# Altium schematic symbol library SparkFun-Retired.SCHLIB: 411 symbols (part 3 of 6)
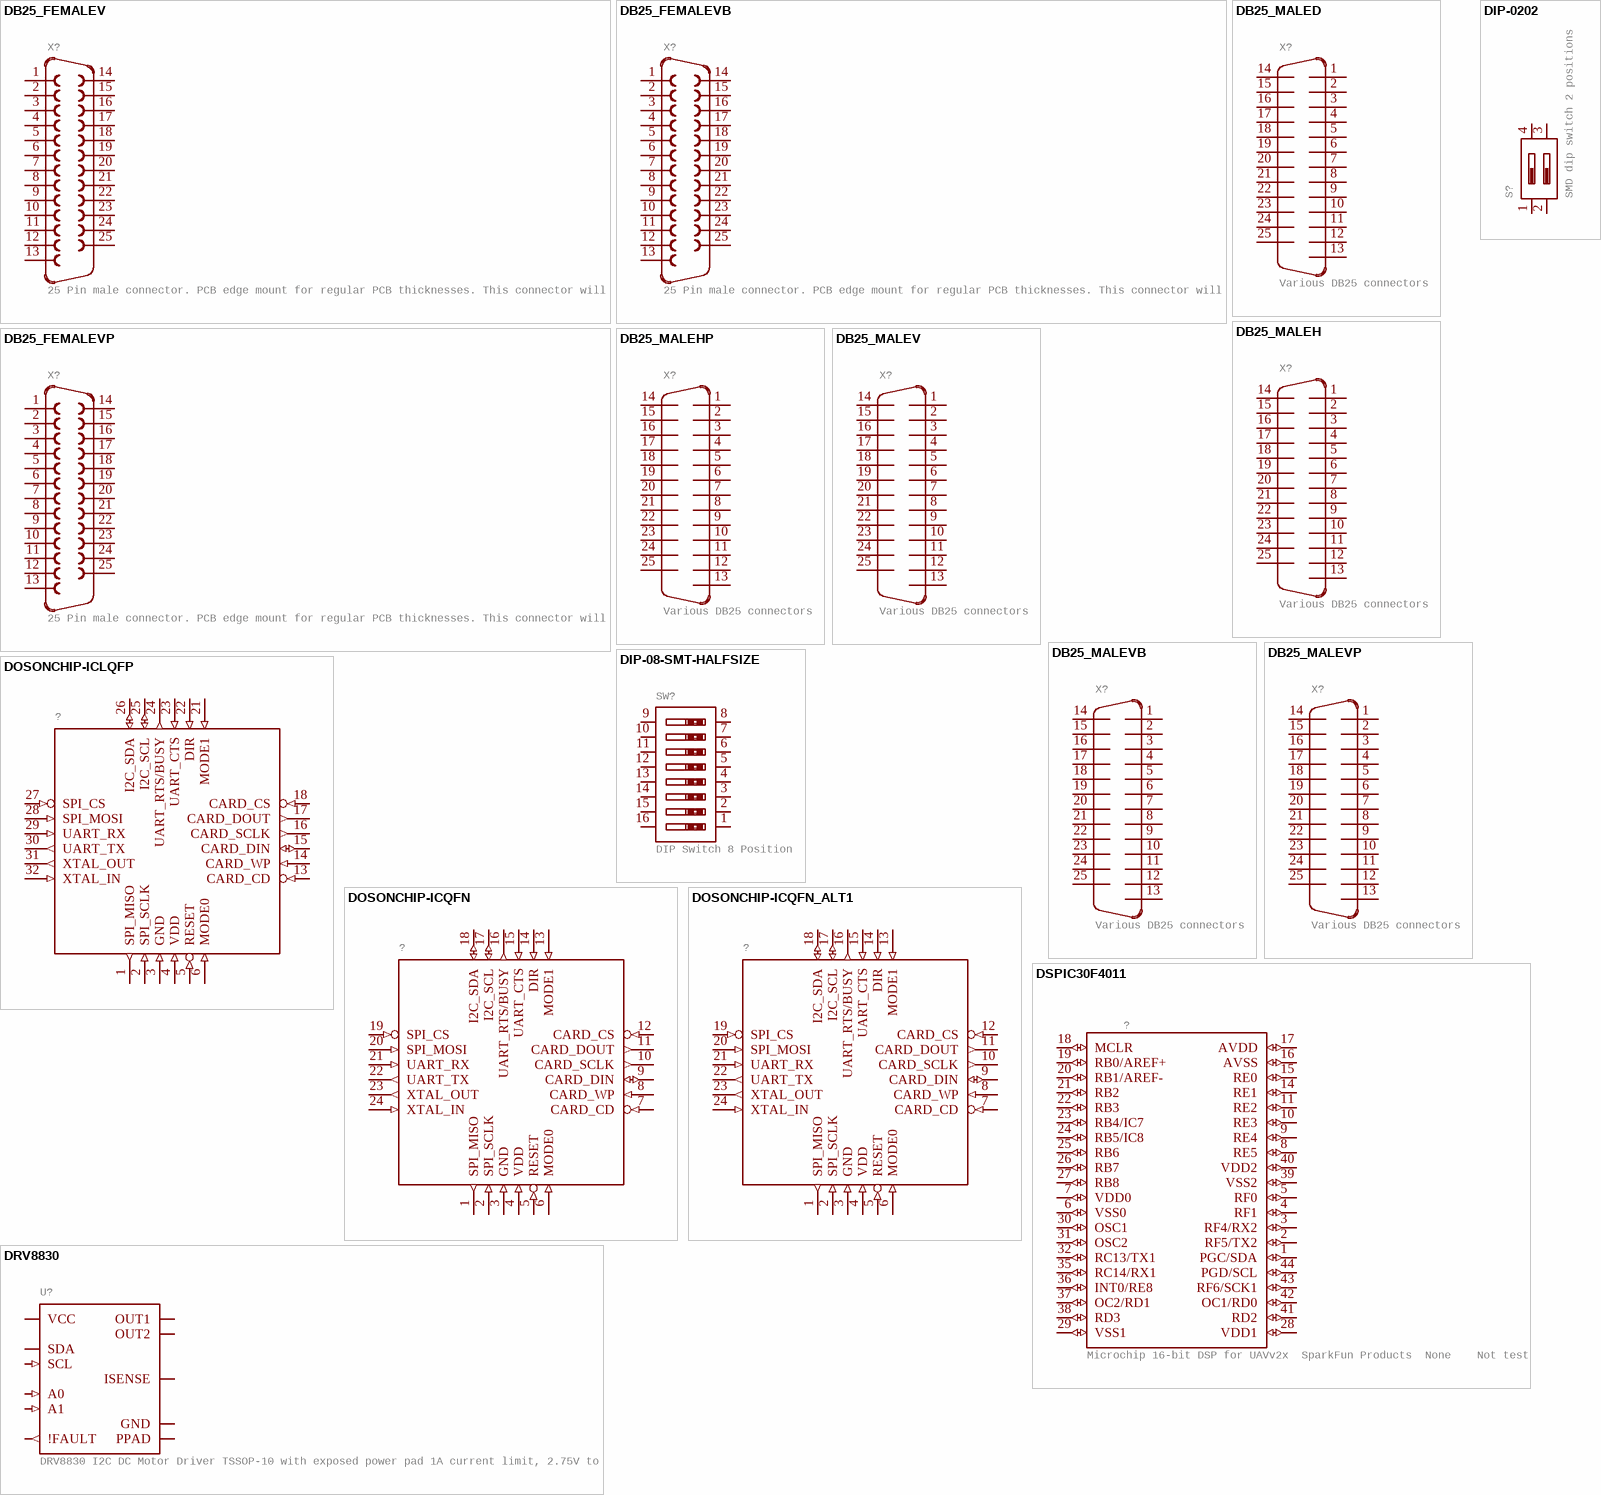
[diagram p34: symbols DB25_FEMALEV to DSPIC30F4011]

## DIP-0202
designator S?, comment SMD dip switch 2 positions
GateName_1: G$1; SymbolName_1: 2-POS-DIP; DeviceName: 02; DeviceSetName: DIP-02; LibraryName: SparkFun-Retired; Package: DIPSWITCH-02
footprint DIPSWITCH-02
pins: 1 P$1 (io), 2 P$2 (io), 3 P$3 (io), 4 P$4 (io)

## DOSONCHIP-ICLQFP
designator ?, comment DOSonCHIP ICThis is the tested schematic and footprint for the DOSonCHIP FAT16 FAT32 IC. Spark Fun Electronics SKU : COM-07956. QFN package also tested/proven.  (value not drawn)
GateName_1: G$1; SymbolName_1: DOSONCHIP-IC; DeviceName: LQFP; LibraryName: SparkFun-Retired; DeviceSetName: DOSONCHIP-IC; Package: LQFP-32
footprint LQFP-32
pins: 1 SPI_MISO (out), 2 SPI_SCLK (in), 3 GND (in), 4 VDD (in), 5 RESET (in), 6 MODE0 (in), 13 CARD_CD (in), 14 CARD_WP (in), 15 CARD_DIN (io), 16 CARD_SCLK (out), 17 CARD_DOUT (out), 18 CARD_CS (in), 21 MODE1 (in), 22 DIR (in), 23 UART_CTS (in), 24 UART_RTS/BUSY (out), 25 I2C_SCL (io), 26 I2C_SDA (io), 27 SPI_CS (in), 28 SPI_MOSI (in), 29 UART_RX (in), 30 UART_TX (out), 31 XTAL_OUT (out), 32 XTAL_IN (in)

## DOSONCHIP-ICQFN
designator ?, comment DOSonCHIP ICThis is the tested schematic and footprint for the DOSonCHIP FAT16 FAT32 IC. Spark Fun Electronics SKU : COM-07956. QFN package also tested/proven.  (value not drawn)
GateName_1: G$1; SymbolName_1: DOSONCHIP-IC; DeviceName: QFN; LibraryName: SparkFun-Retired; DeviceSetName: DOSONCHIP-IC; Package: QFN-24
footprint QFN-24
pins: 1 SPI_MISO (out), 2 SPI_SCLK (in), 3 GND (in), 4 VDD (in), 5 RESET (in), 6 MODE0 (in), 7 CARD_CD (in), 8 CARD_WP (in), 9 CARD_DIN (io), 10 CARD_SCLK (out), 11 CARD_DOUT (out), 12 CARD_CS (in), 13 MODE1 (in), 14 DIR (in), 15 UART_CTS (in), 16 UART_RTS/BUSY (out), 17 I2C_SCL (io), 18 I2C_SDA (io), 19 SPI_CS (in), 20 SPI_MOSI (in), 21 UART_RX (in), 22 UART_TX (out), 23 XTAL_OUT (out), 24 XTAL_IN (in)

## DOSONCHIP-ICQFN_ALT1
designator ?, comment DOSonCHIP ICThis is the tested schematic and footprint for the DOSonCHIP FAT16 FAT32 IC. Spark Fun Electronics SKU : COM-07956. QFN package also tested/proven.  (value not drawn)
GateName_1: G$1; SymbolName_1: DOSONCHIP-IC; DeviceName: QFN_ALT1; LibraryName: SparkFun-Retired; DeviceSetName: DOSONCHIP-IC; Package: QFN-24_ALT1.PAC
footprint QFN-24_ALT1.PAC
pins: 1 SPI_MISO (out), 2 SPI_SCLK (in), 3 GND (in), 4 VDD (in), 5 RESET (in), 6 MODE0 (in), 7 CARD_CD (in), 8 CARD_WP (in), 9 CARD_DIN (io), 10 CARD_SCLK (out), 11 CARD_DOUT (out), 12 CARD_CS (in), 13 MODE1 (in), 14 DIR (in), 15 UART_CTS (in), 16 UART_RTS/BUSY (out), 17 I2C_SCL (io), 18 I2C_SDA (io), 19 SPI_CS (in), 20 SPI_MOSI (in), 21 UART_RX (in), 22 UART_TX (out), 23 XTAL_OUT (out), 24 XTAL_IN (in)

## DRV8830
designator U?, comment DRV8830 I2C DC Motor Driver TSSOP-10 with exposed power pad 1A current limit, 2.75V to 6.8V
GateName_1: G$1; PROD_ID: IC-11646; SymbolName_1: DRV8830; LibraryName: SparkFun-Retired; DeviceSetName: DRV8830; Package: MSOP-10-GNDPAD
footprint MSOP-10-GNDPAD
pins: 1 OUT2 (power), 2 ISENSE (io), 3 OUT1 (power), 4 VCC (power), 5 GND (power), 6 !FAULT (out), 7 A0 (in), 8 A1 (in), 9 SDA (io), 10 SCL (in), GND PPAD (power)

## DSPIC30F4011
designator ?, comment Microchip 16-bit DSP for UAVv2x  SparkFun Products  None    Not tested
GateName_1: G$1; SymbolName_1: DSPIC30F4011; LibraryName: SparkFun-Retired; DeviceSetName: DSPIC30F4011; Package: TQFP44_MCU
footprint TQFP44_MCU
pins: 1 PGC/SDA (io), 2 RF5/TX2 (io), 3 RF4/RX2 (io), 4 RF1 (io), 5 RF0 (io), 6 VSS0 (io), 7 VDD0 (io), 8 RE5 (io), 9 RE4 (io), 10 RE3 (io), 11 RE2 (io), 14 RE1 (io), 15 RE0 (io), 16 AVSS (io), 17 AVDD (io), 18 MCLR (io), 19 RB0/AREF+ (io), 20 RB1/AREF- (io), 21 RB2 (io), 22 RB3 (io), 23 RB4/IC7 (io), 24 RB5/IC8 (io), 25 RB6 (io), 26 RB7 (io), 27 RB8 (io), 28 VDD1 (io), 29 VSS1 (io), 30 OSC1 (io), 31 OSC2 (io), 32 RC13/TX1 (io), 35 RC14/RX1 (io), 36 INT0/RE8 (io), 37 OC2/RD1 (io), 38 RD3 (io), 39 VSS2 (io), 40 VDD2 (io), 41 RD2 (io), 42 OC1/RD0 (io), 43 RF6/SCK1 (io), 44 PGD/SCL (io)

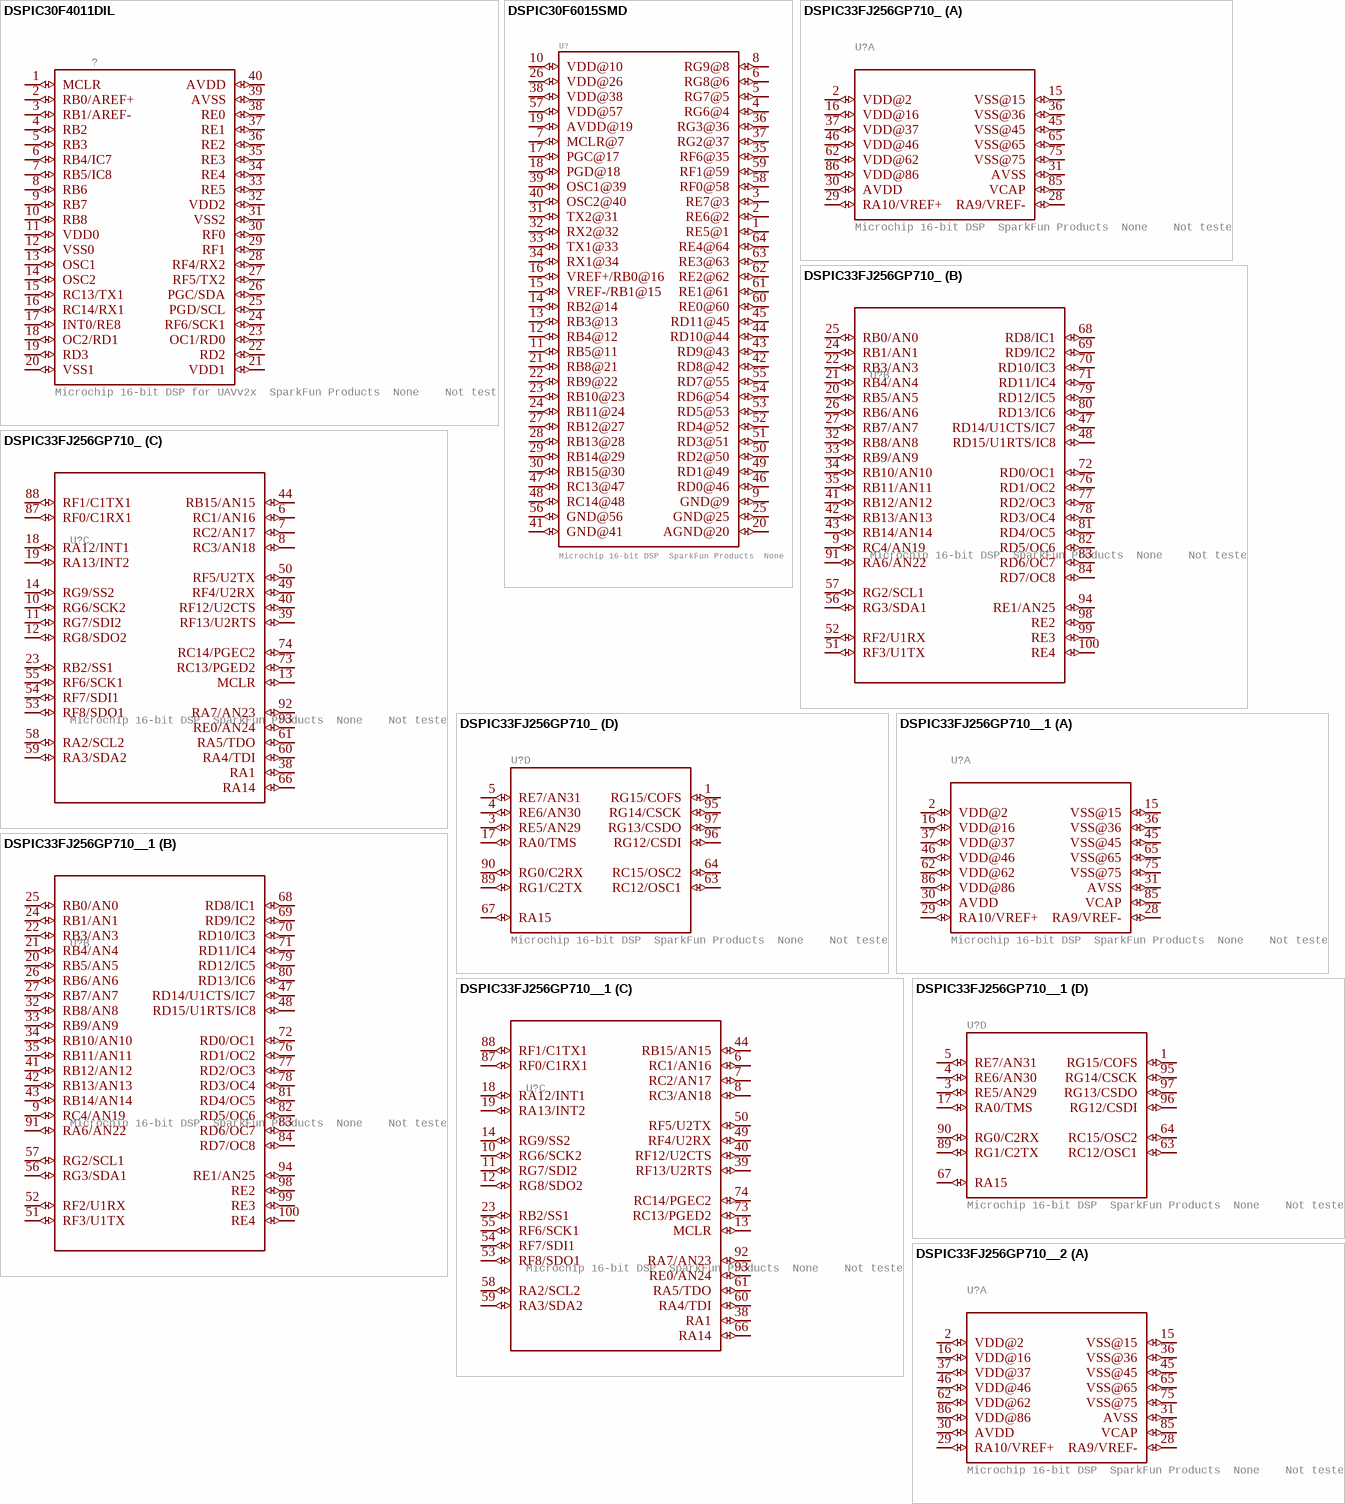
[diagram p10: symbols DSPIC30F4011DIL to DSPIC33FJ256GP710__2]

## DSPIC30F4011DIL
designator ?, comment Microchip 16-bit DSP for UAVv2x  SparkFun Products  None    Not tested
GateName_1: G$1; SymbolName_1: DSPIC30F4011; DeviceName: DIL; LibraryName: SparkFun-Retired; DeviceSetName: DSPIC30F4011; Package: DIP40_MCU
footprint DIP40_MCU
pins: 1 MCLR (io), 2 RB0/AREF+ (io), 3 RB1/AREF- (io), 4 RB2 (io), 5 RB3 (io), 6 RB4/IC7 (io), 7 RB5/IC8 (io), 8 RB6 (io), 9 RB7 (io), 10 RB8 (io), 11 VDD0 (io), 12 VSS0 (io), 13 OSC1 (io), 14 OSC2 (io), 15 RC13/TX1 (io), 16 RC14/RX1 (io), 17 INT0/RE8 (io), 18 OC2/RD1 (io), 19 RD3 (io), 20 VSS1 (io), 21 VDD1 (io), 22 RD2 (io), 23 OC1/RD0 (io), 24 RF6/SCK1 (io), 25 PGD/SCL (io), 26 PGC/SDA (io), 27 RF5/TX2 (io), 28 RF4/RX2 (io), 29 RF1 (io), 30 RF0 (io), 31 VSS2 (io), 32 VDD2 (io), 33 RE5 (io), 34 RE4 (io), 35 RE3 (io), 36 RE2 (io), 37 RE1 (io), 38 RE0 (io), 39 AVSS (io), 40 AVDD (io)

## DSPIC30F6015SMD
designator U?, comment Microchip 16-bit DSP  SparkFun Products  None
GateName_1: G$1; SymbolName_1: DSPIC30F6015; DeviceName: SMD; LibraryName: SparkFun-Retired; DeviceSetName: DSPIC30F6015; Package: TQFP64_MCU
footprint TQFP64_MCU
pins: 1 RE5@1 (io), 2 RE6@2 (io), 3 RE7@3 (io), 4 RG6@4 (io), 5 RG7@5 (io), 6 RG8@6 (io), 7 MCLR@7 (io), 8 RG9@8 (io), 9 GND@9 (io), 10 VDD@10 (io), 11 RB5@11 (io), 12 RB4@12 (io), 13 RB3@13 (io), 14 RB2@14 (io), 15 VREF-/RB1@15 (io), 16 VREF+/RB0@16 (io), 17 PGC@17 (io), 18 PGD@18 (io), 19 AVDD@19 (io), 20 AGND@20 (io), 21 RB8@21 (io), 22 RB9@22 (io), 23 RB10@23 (io), 24 RB11@24 (io), 25 GND@25 (io), 26 VDD@26 (io), 27 RB12@27 (io), 28 RB13@28 (io), 29 RB14@29 (io), 30 RB15@30 (io), 31 TX2@31 (io), 32 RX2@32 (io), 33 TX1@33 (io), 34 RX1@34 (io), 35 RF6@35 (io), 36 RG3@36 (io), 37 RG2@37 (io), 38 VDD@38 (io), 39 OSC1@39 (io), 40 OSC2@40 (io), 41 GND@41 (io), 42 RD8@42 (io), 43 RD9@43 (io), 44 RD10@44 (io), 45 RD11@45 (io), 46 RD0@46 (io), 47 RC13@47 (io), 48 RC14@48 (io), 49 RD1@49 (io), 50 RD2@50 (io), 51 RD3@51 (io), 52 RD4@52 (io), 53 RD5@53 (io), 54 RD6@54 (io), 55 RD7@55 (io), 56 GND@56 (io), 57 VDD@57 (io), 58 RF0@58 (io), 59 RF1@59 (io), 60 RE0@60 (io), 61 RE1@61 (io), 62 RE2@62 (io), 63 RE3@63 (io), 64 RE4@64 (io)

## DSPIC33FJ256GP710_
designator U?, comment Microchip 16-bit DSP  SparkFun Products  None    Not tested
GateName_1: G1; SymbolName_1: DSPIC33FJ256GP710_POWER; GateName_2: G2; SymbolName_2: DSPIC33FJ256GP710_CONTROL; GateName_3: G3; SymbolName_3: DSPIC33FJ256GP710_EXTERNAL; GateName_4: G4; SymbolName_4: DSPIC33FJ256GP710_EXTRA; DeviceName: _; DeviceSetName: DSPIC33FJ256GP710; LibraryName: SparkFun-Retired; Package: TQFP-100-12X12MM_MCU
footprint TQFP-100-12X12MM_MCU
part A pins: 2 VDD@2 (io), 15 VSS@15 (io), 16 VDD@16 (io), 28 RA9/VREF- (io), 29 RA10/VREF+ (io), 30 AVDD (io), 31 AVSS (io), 36 VSS@36 (io), 37 VDD@37 (io), 45 VSS@45 (io), 46 VDD@46 (io), 62 VDD@62 (io), 65 VSS@65 (io), 75 VSS@75 (io), 85 VCAP (io), 86 VDD@86 (io)
part B pins: 9 RC4/AN19 (io), 20 RB5/AN5 (io), 21 RB4/AN4 (io), 22 RB3/AN3 (io), 24 RB1/AN1 (io), 25 RB0/AN0 (io), 26 RB6/AN6 (io), 27 RB7/AN7 (io), 32 RB8/AN8 (io), 33 RB9/AN9 (io), 34 RB10/AN10 (io), 35 RB11/AN11 (io), 41 RB12/AN12 (io), 42 RB13/AN13 (io), 43 RB14/AN14 (io), 47 RD14/U1CTS/IC7 (io), 48 RD15/U1RTS/IC8 (io), 51 RF3/U1TX (io), 52 RF2/U1RX (io), 56 RG3/SDA1 (io), 57 RG2/SCL1 (io), 68 RD8/IC1 (io), 69 RD9/IC2 (io), 70 RD10/IC3 (io), 71 RD11/IC4 (io), 72 RD0/OC1 (io), 76 RD1/OC2 (io), 77 RD2/OC3 (io), 78 RD3/OC4 (io), 79 RD12/IC5 (io), 80 RD13/IC6 (io), 81 RD4/OC5 (io), 82 RD5/OC6 (io), 83 RD6/OC7 (io), 84 RD7/OC8 (io), 91 RA6/AN22 (io), 94 RE1/AN25 (io), 98 RE2 (io), 99 RE3 (io), 100 RE4 (io)
part C pins: 6 RC1/AN16 (io), 7 RC2/AN17 (io), 8 RC3/AN18 (io), 10 RG6/SCK2 (io), 11 RG7/SDI2 (io), 12 RG8/SDO2 (io), 13 MCLR (io), 14 RG9/SS2 (io), 18 RA12/INT1 (io), 19 RA13/INT2 (io), 23 RB2/SS1 (io), 38 RA1 (io), 39 RF13/U2RTS (io), 40 RF12/U2CTS (io), 44 RB15/AN15 (io), 49 RF4/U2RX (io), 50 RF5/U2TX (io), 53 RF8/SDO1 (io), 54 RF7/SDI1 (io), 55 RF6/SCK1 (io), 58 RA2/SCL2 (io), 59 RA3/SDA2 (io), 60 RA4/TDI (io), 61 RA5/TDO (io), 66 RA14 (io), 73 RC13/PGED2 (io), 74 RC14/PGEC2 (io), 87 RF0/C1RX1 (io), 88 RF1/C1TX1 (io), 92 RA7/AN23 (io), 93 RE0/AN24 (io)
part D pins: 1 RG15/COFS (io), 3 RE5/AN29 (io), 4 RE6/AN30 (io), 5 RE7/AN31 (io), 17 RA0/TMS (io), 63 RC12/OSC1 (io), 64 RC15/OSC2 (io), 67 RA15 (io), 89 RG1/C2TX (io), 90 RG0/C2RX (io), 95 RG14/CSCK (io), 96 RG12/CSDI (io), 97 RG13/CSDO (io)

## DSPIC33FJ256GP710__1
designator U?, comment Microchip 16-bit DSP  SparkFun Products  None    Not tested
GateName_1: G1; SymbolName_1: DSPIC33FJ256GP710_POWER; GateName_2: G2; SymbolName_2: DSPIC33FJ256GP710_CONTROL; GateName_3: G3; SymbolName_3: DSPIC33FJ256GP710_EXTERNAL; GateName_4: G4; SymbolName_4: DSPIC33FJ256GP710_EXTRA; DeviceName: _; DeviceSetName: DSPIC33FJ256GP710; LibraryName: SparkFun-Retired; Package: TQFP-100-12X12MM_MCU
footprint TQFP-100-12X12MM_MCU
part A pins: 2 VDD@2 (io), 15 VSS@15 (io), 16 VDD@16 (io), 28 RA9/VREF- (io), 29 RA10/VREF+ (io), 30 AVDD (io), 31 AVSS (io), 36 VSS@36 (io), 37 VDD@37 (io), 45 VSS@45 (io), 46 VDD@46 (io), 62 VDD@62 (io), 65 VSS@65 (io), 75 VSS@75 (io), 85 VCAP (io), 86 VDD@86 (io)
part B pins: 9 RC4/AN19 (io), 20 RB5/AN5 (io), 21 RB4/AN4 (io), 22 RB3/AN3 (io), 24 RB1/AN1 (io), 25 RB0/AN0 (io), 26 RB6/AN6 (io), 27 RB7/AN7 (io), 32 RB8/AN8 (io), 33 RB9/AN9 (io), 34 RB10/AN10 (io), 35 RB11/AN11 (io), 41 RB12/AN12 (io), 42 RB13/AN13 (io), 43 RB14/AN14 (io), 47 RD14/U1CTS/IC7 (io), 48 RD15/U1RTS/IC8 (io), 51 RF3/U1TX (io), 52 RF2/U1RX (io), 56 RG3/SDA1 (io), 57 RG2/SCL1 (io), 68 RD8/IC1 (io), 69 RD9/IC2 (io), 70 RD10/IC3 (io), 71 RD11/IC4 (io), 72 RD0/OC1 (io), 76 RD1/OC2 (io), 77 RD2/OC3 (io), 78 RD3/OC4 (io), 79 RD12/IC5 (io), 80 RD13/IC6 (io), 81 RD4/OC5 (io), 82 RD5/OC6 (io), 83 RD6/OC7 (io), 84 RD7/OC8 (io), 91 RA6/AN22 (io), 94 RE1/AN25 (io), 98 RE2 (io), 99 RE3 (io), 100 RE4 (io)
part C pins: 6 RC1/AN16 (io), 7 RC2/AN17 (io), 8 RC3/AN18 (io), 10 RG6/SCK2 (io), 11 RG7/SDI2 (io), 12 RG8/SDO2 (io), 13 MCLR (io), 14 RG9/SS2 (io), 18 RA12/INT1 (io), 19 RA13/INT2 (io), 23 RB2/SS1 (io), 38 RA1 (io), 39 RF13/U2RTS (io), 40 RF12/U2CTS (io), 44 RB15/AN15 (io), 49 RF4/U2RX (io), 50 RF5/U2TX (io), 53 RF8/SDO1 (io), 54 RF7/SDI1 (io), 55 RF6/SCK1 (io), 58 RA2/SCL2 (io), 59 RA3/SDA2 (io), 60 RA4/TDI (io), 61 RA5/TDO (io), 66 RA14 (io), 73 RC13/PGED2 (io), 74 RC14/PGEC2 (io), 87 RF0/C1RX1 (io), 88 RF1/C1TX1 (io), 92 RA7/AN23 (io), 93 RE0/AN24 (io)
part D pins: 1 RG15/COFS (io), 3 RE5/AN29 (io), 4 RE6/AN30 (io), 5 RE7/AN31 (io), 17 RA0/TMS (io), 63 RC12/OSC1 (io), 64 RC15/OSC2 (io), 67 RA15 (io), 89 RG1/C2TX (io), 90 RG0/C2RX (io), 95 RG14/CSCK (io), 96 RG12/CSDI (io), 97 RG13/CSDO (io)

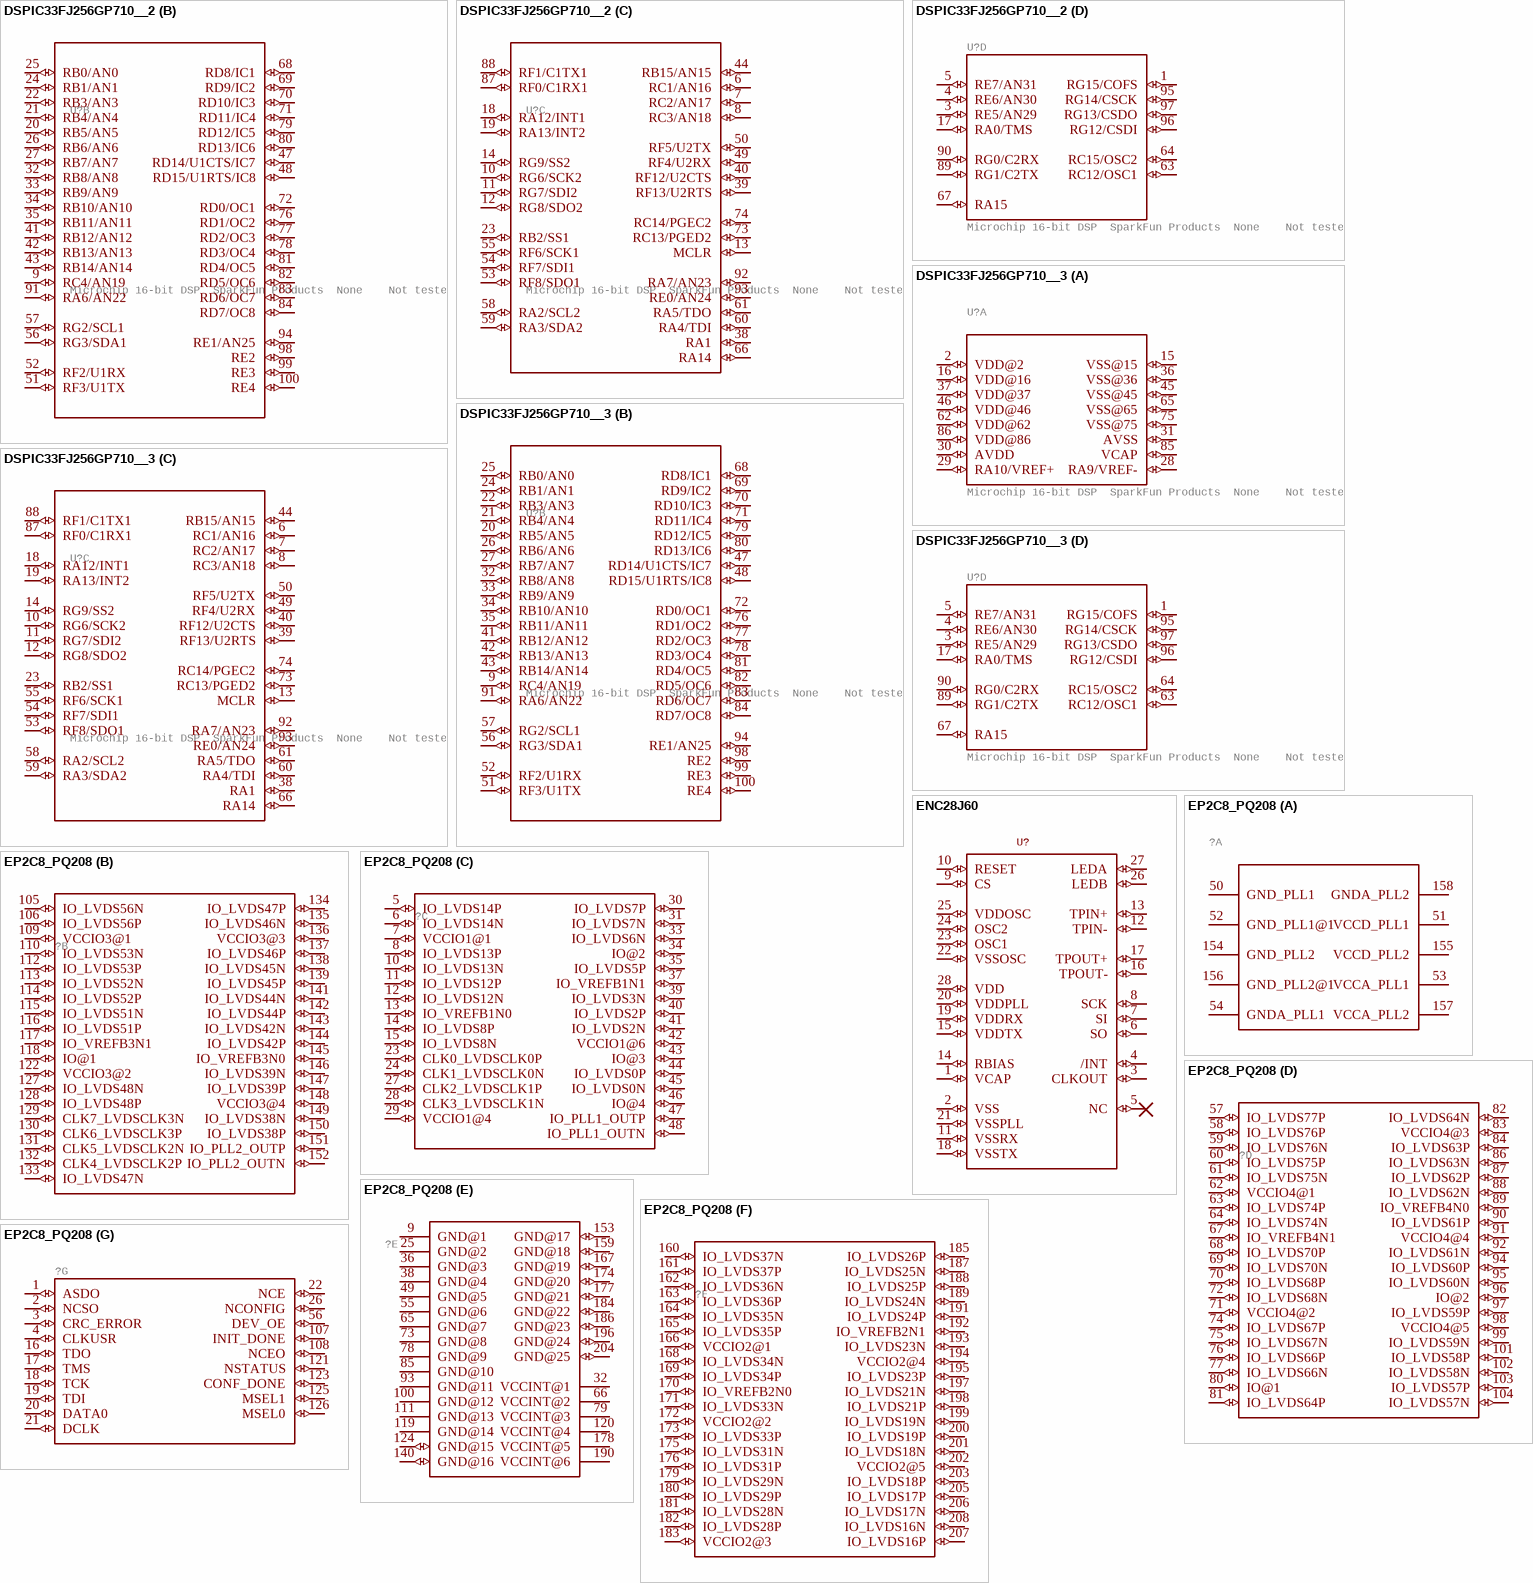
[diagram p11: symbols DSPIC33FJ256GP710__2 to EP2C8_PQ208]

## DSPIC33FJ256GP710__2
designator U?, comment Microchip 16-bit DSP  SparkFun Products  None    Not tested
GateName_1: G1; SymbolName_1: DSPIC33FJ256GP710_POWER; GateName_2: G2; SymbolName_2: DSPIC33FJ256GP710_CONTROL; GateName_3: G3; SymbolName_3: DSPIC33FJ256GP710_EXTERNAL; GateName_4: G4; SymbolName_4: DSPIC33FJ256GP710_EXTRA; DeviceName: _; DeviceSetName: DSPIC33FJ256GP710; LibraryName: SparkFun-Retired; Package: TQFP-100-12X12MM_MCU
footprint TQFP-100-12X12MM_MCU
part A pins: 2 VDD@2 (io), 15 VSS@15 (io), 16 VDD@16 (io), 28 RA9/VREF- (io), 29 RA10/VREF+ (io), 30 AVDD (io), 31 AVSS (io), 36 VSS@36 (io), 37 VDD@37 (io), 45 VSS@45 (io), 46 VDD@46 (io), 62 VDD@62 (io), 65 VSS@65 (io), 75 VSS@75 (io), 85 VCAP (io), 86 VDD@86 (io)
part B pins: 9 RC4/AN19 (io), 20 RB5/AN5 (io), 21 RB4/AN4 (io), 22 RB3/AN3 (io), 24 RB1/AN1 (io), 25 RB0/AN0 (io), 26 RB6/AN6 (io), 27 RB7/AN7 (io), 32 RB8/AN8 (io), 33 RB9/AN9 (io), 34 RB10/AN10 (io), 35 RB11/AN11 (io), 41 RB12/AN12 (io), 42 RB13/AN13 (io), 43 RB14/AN14 (io), 47 RD14/U1CTS/IC7 (io), 48 RD15/U1RTS/IC8 (io), 51 RF3/U1TX (io), 52 RF2/U1RX (io), 56 RG3/SDA1 (io), 57 RG2/SCL1 (io), 68 RD8/IC1 (io), 69 RD9/IC2 (io), 70 RD10/IC3 (io), 71 RD11/IC4 (io), 72 RD0/OC1 (io), 76 RD1/OC2 (io), 77 RD2/OC3 (io), 78 RD3/OC4 (io), 79 RD12/IC5 (io), 80 RD13/IC6 (io), 81 RD4/OC5 (io), 82 RD5/OC6 (io), 83 RD6/OC7 (io), 84 RD7/OC8 (io), 91 RA6/AN22 (io), 94 RE1/AN25 (io), 98 RE2 (io), 99 RE3 (io), 100 RE4 (io)
part C pins: 6 RC1/AN16 (io), 7 RC2/AN17 (io), 8 RC3/AN18 (io), 10 RG6/SCK2 (io), 11 RG7/SDI2 (io), 12 RG8/SDO2 (io), 13 MCLR (io), 14 RG9/SS2 (io), 18 RA12/INT1 (io), 19 RA13/INT2 (io), 23 RB2/SS1 (io), 38 RA1 (io), 39 RF13/U2RTS (io), 40 RF12/U2CTS (io), 44 RB15/AN15 (io), 49 RF4/U2RX (io), 50 RF5/U2TX (io), 53 RF8/SDO1 (io), 54 RF7/SDI1 (io), 55 RF6/SCK1 (io), 58 RA2/SCL2 (io), 59 RA3/SDA2 (io), 60 RA4/TDI (io), 61 RA5/TDO (io), 66 RA14 (io), 73 RC13/PGED2 (io), 74 RC14/PGEC2 (io), 87 RF0/C1RX1 (io), 88 RF1/C1TX1 (io), 92 RA7/AN23 (io), 93 RE0/AN24 (io)
part D pins: 1 RG15/COFS (io), 3 RE5/AN29 (io), 4 RE6/AN30 (io), 5 RE7/AN31 (io), 17 RA0/TMS (io), 63 RC12/OSC1 (io), 64 RC15/OSC2 (io), 67 RA15 (io), 89 RG1/C2TX (io), 90 RG0/C2RX (io), 95 RG14/CSCK (io), 96 RG12/CSDI (io), 97 RG13/CSDO (io)

## DSPIC33FJ256GP710__3
designator U?, comment Microchip 16-bit DSP  SparkFun Products  None    Not tested
GateName_1: G1; SymbolName_1: DSPIC33FJ256GP710_POWER; GateName_2: G2; SymbolName_2: DSPIC33FJ256GP710_CONTROL; GateName_3: G3; SymbolName_3: DSPIC33FJ256GP710_EXTERNAL; GateName_4: G4; SymbolName_4: DSPIC33FJ256GP710_EXTRA; DeviceName: _; DeviceSetName: DSPIC33FJ256GP710; LibraryName: SparkFun-Retired; Package: TQFP-100-12X12MM_MCU
footprint TQFP-100-12X12MM_MCU
part A pins: 2 VDD@2 (io), 15 VSS@15 (io), 16 VDD@16 (io), 28 RA9/VREF- (io), 29 RA10/VREF+ (io), 30 AVDD (io), 31 AVSS (io), 36 VSS@36 (io), 37 VDD@37 (io), 45 VSS@45 (io), 46 VDD@46 (io), 62 VDD@62 (io), 65 VSS@65 (io), 75 VSS@75 (io), 85 VCAP (io), 86 VDD@86 (io)
part B pins: 9 RC4/AN19 (io), 20 RB5/AN5 (io), 21 RB4/AN4 (io), 22 RB3/AN3 (io), 24 RB1/AN1 (io), 25 RB0/AN0 (io), 26 RB6/AN6 (io), 27 RB7/AN7 (io), 32 RB8/AN8 (io), 33 RB9/AN9 (io), 34 RB10/AN10 (io), 35 RB11/AN11 (io), 41 RB12/AN12 (io), 42 RB13/AN13 (io), 43 RB14/AN14 (io), 47 RD14/U1CTS/IC7 (io), 48 RD15/U1RTS/IC8 (io), 51 RF3/U1TX (io), 52 RF2/U1RX (io), 56 RG3/SDA1 (io), 57 RG2/SCL1 (io), 68 RD8/IC1 (io), 69 RD9/IC2 (io), 70 RD10/IC3 (io), 71 RD11/IC4 (io), 72 RD0/OC1 (io), 76 RD1/OC2 (io), 77 RD2/OC3 (io), 78 RD3/OC4 (io), 79 RD12/IC5 (io), 80 RD13/IC6 (io), 81 RD4/OC5 (io), 82 RD5/OC6 (io), 83 RD6/OC7 (io), 84 RD7/OC8 (io), 91 RA6/AN22 (io), 94 RE1/AN25 (io), 98 RE2 (io), 99 RE3 (io), 100 RE4 (io)
part C pins: 6 RC1/AN16 (io), 7 RC2/AN17 (io), 8 RC3/AN18 (io), 10 RG6/SCK2 (io), 11 RG7/SDI2 (io), 12 RG8/SDO2 (io), 13 MCLR (io), 14 RG9/SS2 (io), 18 RA12/INT1 (io), 19 RA13/INT2 (io), 23 RB2/SS1 (io), 38 RA1 (io), 39 RF13/U2RTS (io), 40 RF12/U2CTS (io), 44 RB15/AN15 (io), 49 RF4/U2RX (io), 50 RF5/U2TX (io), 53 RF8/SDO1 (io), 54 RF7/SDI1 (io), 55 RF6/SCK1 (io), 58 RA2/SCL2 (io), 59 RA3/SDA2 (io), 60 RA4/TDI (io), 61 RA5/TDO (io), 66 RA14 (io), 73 RC13/PGED2 (io), 74 RC14/PGEC2 (io), 87 RF0/C1RX1 (io), 88 RF1/C1TX1 (io), 92 RA7/AN23 (io), 93 RE0/AN24 (io)
part D pins: 1 RG15/COFS (io), 3 RE5/AN29 (io), 4 RE6/AN30 (io), 5 RE7/AN31 (io), 17 RA0/TMS (io), 63 RC12/OSC1 (io), 64 RC15/OSC2 (io), 67 RA15 (io), 89 RG1/C2TX (io), 90 RG0/C2RX (io), 95 RG14/CSCK (io), 96 RG12/CSDI (io), 97 RG13/CSDO (io)

## ENC28J60
designator U?, comment Microchip SPI 10Base ethernet IC   Prototype by abe, 2010.  Dead?  (value not drawn)
GateName_1: G$1; SymbolName_1: ENC28J60; PROD_ID: IC-09541; LibraryName: SparkFun-Retired; DeviceSetName: ENC28J60; Package: SSOP28DB
footprint SSOP28DB
pins: 1 VCAP (io), 2 VSS (io), 3 CLKOUT (io), 4 /INT (io), 5 NC (io), 6 SO (io), 7 SI (io), 8 SCK (io), 9 CS (io), 10 RESET (io), 11 VSSRX (io), 12 TPIN- (io), 13 TPIN+ (io), 14 RBIAS (io), 15 VDDTX (io), 16 TPOUT- (io), 17 TPOUT+ (io), 18 VSSTX (io), 19 VDDRX (io), 20 VDDPLL (io), 21 VSSPLL (io), 22 VSSOSC (io), 23 OSC1 (io), 24 OSC2 (io), 25 VDDOSC (io), 26 LEDB (io), 27 LEDA (io), 28 VDD (io)

## EP2C8_PQ208
designator ?, comment Altera Cyclone2 FPGA, PQFP-208  Not in catalog  (value not drawn)
GateName_1: G$2; SymbolName_1: EP2C20_PQ208_PLL; GateName_2: G$6; SymbolName_2: EP2C20_PQ208_B3; GateName_3: G$4; SymbolName_3: EP2C20_PQ208_B1; GateName_4: G$3; SymbolName_4: EP2C20_PQ208_B4; GateName_5: G$7; SymbolName_5: EP2C20_PQ208_POWER; GateName_6: G$5; SymbolName_6: EP2C20_PQ208_B2; GateName_7: G$1; SymbolName_7: EP2C20_PQ208_CONFIG; DeviceSetName: EP2C8_PQ208; LibraryName: SparkFun-Retired; Package: PQFP208
footprint PQFP208
part A pins: 50 GND_PLL1 (power), 51 VCCD_PLL1 (power), 52 GND_PLL1@1 (power), 53 VCCA_PLL1 (power), 54 GNDA_PLL1 (power), 154 GND_PLL2 (power), 155 VCCD_PLL2 (power), 156 GND_PLL2@1 (power), 157 VCCA_PLL2 (power), 158 GNDA_PLL2 (power)
part B pins: 105 IO_LVDS56N (io), 106 IO_LVDS56P (io), 109 VCCIO3@1 (io), 110 IO_LVDS53N (io), 112 IO_LVDS53P (io), 113 IO_LVDS52N (io), 114 IO_LVDS52P (io), 115 IO_LVDS51N (io), 116 IO_LVDS51P (io), 117 IO_VREFB3N1 (io), 118 IO@1 (io), 122 VCCIO3@2 (io), 127 IO_LVDS48N (io), 128 IO_LVDS48P (io), 129 CLK7_LVDSCLK3N (io), 130 CLK6_LVDSCLK3P (io), 131 CLK5_LVDSCLK2N (io), 132 CLK4_LVDSCLK2P (io), 133 IO_LVDS47N (io), 134 IO_LVDS47P (io), 135 IO_LVDS46N (io), 136 VCCIO3@3 (io), 137 IO_LVDS46P (io), 138 IO_LVDS45N (io), 139 IO_LVDS45P (io), 141 IO_LVDS44N (io), 142 IO_LVDS44P (io), 143 IO_LVDS42N (io), 144 IO_LVDS42P (io), 145 IO_VREFB3N0 (io), 146 IO_LVDS39N (io), 147 IO_LVDS39P (io), 148 VCCIO3@4 (io), 149 IO_LVDS38N (io), 150 IO_LVDS38P (io), 151 IO_PLL2_OUTP (io), 152 IO_PLL2_OUTN (io)
part C pins: 5 IO_LVDS14P (io), 6 IO_LVDS14N (io), 7 VCCIO1@1 (io), 8 IO_LVDS13P (io), 10 IO_LVDS13N (io), 11 IO_LVDS12P (io), 12 IO_LVDS12N (io), 13 IO_VREFB1N0 (io), 14 IO_LVDS8P (io), 15 IO_LVDS8N (io), 23 CLK0_LVDSCLK0P (io), 24 CLK1_LVDSCLK0N (io), 27 CLK2_LVDSCLK1P (io), 28 CLK3_LVDSCLK1N (io), 29 VCCIO1@4 (io), 30 IO_LVDS7P (io), 31 IO_LVDS7N (io), 33 IO_LVDS6N (io), 34 IO@2 (io), 35 IO_LVDS5P (io), 37 IO_VREFB1N1 (io), 39 IO_LVDS3N (io), 40 IO_LVDS2P (io), 41 IO_LVDS2N (io), 42 VCCIO1@6 (io), 43 IO@3 (io), 44 IO_LVDS0P (io), 45 IO_LVDS0N (io), 46 IO@4 (io), 47 IO_PLL1_OUTP (io), 48 IO_PLL1_OUTN (io)
part D pins: 57 IO_LVDS77P (io), 58 IO_LVDS76P (io), 59 IO_LVDS76N (io), 60 IO_LVDS75P (io), 61 IO_LVDS75N (io), 62 VCCIO4@1 (io), 63 IO_LVDS74P (io), 64 IO_LVDS74N (io), 67 IO_VREFB4N1 (io), 68 IO_LVDS70P (io), 69 IO_LVDS70N (io), 70 IO_LVDS68P (io), 71 VCCIO4@2 (io), 72 IO_LVDS68N (io), 74 IO_LVDS67P (io), 75 IO_LVDS67N (io), 76 IO_LVDS66P (io), 77 IO_LVDS66N (io), 80 IO@1 (io), 81 IO_LVDS64P (io), 82 IO_LVDS64N (io), 83 VCCIO4@3 (io), 84 IO_LVDS63P (io), 86 IO_LVDS63N (io), 87 IO_LVDS62P (io), 88 IO_LVDS62N (io), 89 IO_VREFB4N0 (io), 90 IO_LVDS61P (io), 91 VCCIO4@4 (io), 92 IO_LVDS61N (io), 94 IO_LVDS60P (io), 95 IO_LVDS60N (io), 96 IO@2 (io), 97 IO_LVDS59P (io), 98 VCCIO4@5 (io), 99 IO_LVDS59N (io), 101 IO_LVDS58P (io), 102 IO_LVDS58N (io), 103 IO_LVDS57P (io), 104 IO_LVDS57N (io)
part E pins: 9 GND@1 (power), 25 GND@2 (power), 32 VCCINT@1 (power), 36 GND@3 (power), 38 GND@4 (power), 49 GND@5 (power), 55 GND@6 (power), 65 GND@7 (power), 66 VCCINT@2 (power), 73 GND@8 (power), 78 GND@9 (power), 79 VCCINT@3 (power), 85 GND@10 (power), 93 GND@11 (power), 100 GND@12 (power), 111 GND@13 (power), 119 GND@14 (power), 120 VCCINT@4 (power), 124 GND@15 (io), 140 GND@16 (io), 153 GND@17 (io), 159 GND@18 (io), 167 GND@19 (io), 174 GND@20 (io), 177 GND@21 (io), 178 VCCINT@5 (power), 184 GND@22 (io), 186 GND@23 (io), 190 VCCINT@6 (power), 196 GND@24 (io), 204 GND@25 (io)
part F pins: 160 IO_LVDS37N (io), 161 IO_LVDS37P (io), 162 IO_LVDS36N (io), 163 IO_LVDS36P (io), 164 IO_LVDS35N (io), 165 IO_LVDS35P (io), 166 VCCIO2@1 (io), 168 IO_LVDS34N (io), 169 IO_LVDS34P (io), 170 IO_VREFB2N0 (io), 171 IO_LVDS33N (io), 172 VCCIO2@2 (io), 173 IO_LVDS33P (io), 175 IO_LVDS31N (io), 176 IO_LVDS31P (io), 179 IO_LVDS29N (io), 180 IO_LVDS29P (io), 181 IO_LVDS28N (io), 182 IO_LVDS28P (io), 183 VCCIO2@3 (io), 185 IO_LVDS26P (io), 187 IO_LVDS25N (io), 188 IO_LVDS25P (io), 189 IO_LVDS24N (io), 191 IO_LVDS24P (io), 192 IO_VREFB2N1 (io), 193 IO_LVDS23N (io), 194 VCCIO2@4 (io), 195 IO_LVDS23P (io), 197 IO_LVDS21N (io), 198 IO_LVDS21P (io), 199 IO_LVDS19N (io), 200 IO_LVDS19P (io), 201 IO_LVDS18N (io), 202 VCCIO2@5 (io), 203 IO_LVDS18P (io), 205 IO_LVDS17P (io), 206 IO_LVDS17N (io), 207 IO_LVDS16P (io), 208 IO_LVDS16N (io)
part G pins: 1 ASDO (io), 2 NCSO (io), 3 CRC_ERROR (io), 4 CLKUSR (io), 16 TDO (io), 17 TMS (io), 18 TCK (io), 19 TDI (io), 20 DATA0 (io), 21 DCLK (io), 22 NCE (io), 26 NCONFIG (io), 56 DEV_OE (io), 107 INIT_DONE (io), 108 NCEO (io), 121 NSTATUS (io), 123 CONF_DONE (io), 125 MSEL1 (io), 126 MSEL0 (io)

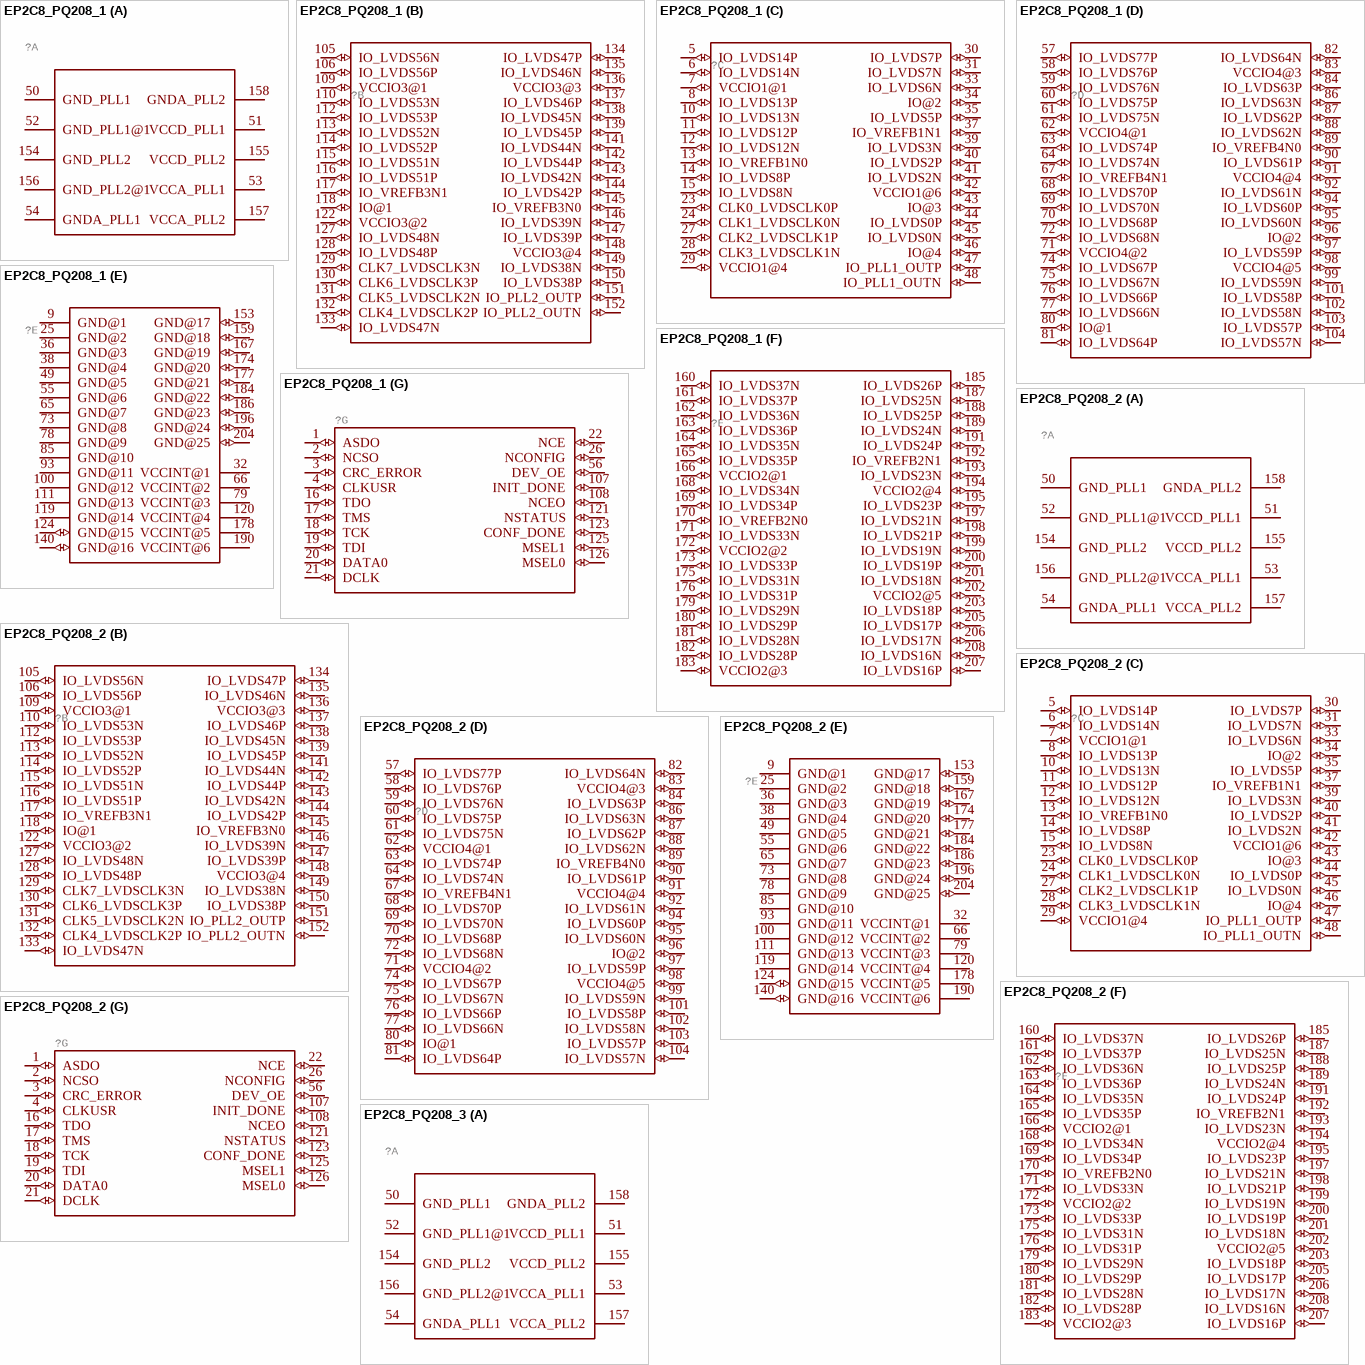
[diagram p12: symbols EP2C8_PQ208_1 to EP2C8_PQ208_3]

## EP2C8_PQ208_1
designator ?, comment Altera Cyclone2 FPGA, PQFP-208  Not in catalog  (value not drawn)
GateName_1: G$2; SymbolName_1: EP2C20_PQ208_PLL; GateName_2: G$6; SymbolName_2: EP2C20_PQ208_B3; GateName_3: G$4; SymbolName_3: EP2C20_PQ208_B1; GateName_4: G$3; SymbolName_4: EP2C20_PQ208_B4; GateName_5: G$7; SymbolName_5: EP2C20_PQ208_POWER; GateName_6: G$5; SymbolName_6: EP2C20_PQ208_B2; GateName_7: G$1; SymbolName_7: EP2C20_PQ208_CONFIG; DeviceSetName: EP2C8_PQ208; LibraryName: SparkFun-Retired; Package: PQFP208
footprint PQFP208
part A pins: 50 GND_PLL1 (power), 51 VCCD_PLL1 (power), 52 GND_PLL1@1 (power), 53 VCCA_PLL1 (power), 54 GNDA_PLL1 (power), 154 GND_PLL2 (power), 155 VCCD_PLL2 (power), 156 GND_PLL2@1 (power), 157 VCCA_PLL2 (power), 158 GNDA_PLL2 (power)
part B pins: 105 IO_LVDS56N (io), 106 IO_LVDS56P (io), 109 VCCIO3@1 (io), 110 IO_LVDS53N (io), 112 IO_LVDS53P (io), 113 IO_LVDS52N (io), 114 IO_LVDS52P (io), 115 IO_LVDS51N (io), 116 IO_LVDS51P (io), 117 IO_VREFB3N1 (io), 118 IO@1 (io), 122 VCCIO3@2 (io), 127 IO_LVDS48N (io), 128 IO_LVDS48P (io), 129 CLK7_LVDSCLK3N (io), 130 CLK6_LVDSCLK3P (io), 131 CLK5_LVDSCLK2N (io), 132 CLK4_LVDSCLK2P (io), 133 IO_LVDS47N (io), 134 IO_LVDS47P (io), 135 IO_LVDS46N (io), 136 VCCIO3@3 (io), 137 IO_LVDS46P (io), 138 IO_LVDS45N (io), 139 IO_LVDS45P (io), 141 IO_LVDS44N (io), 142 IO_LVDS44P (io), 143 IO_LVDS42N (io), 144 IO_LVDS42P (io), 145 IO_VREFB3N0 (io), 146 IO_LVDS39N (io), 147 IO_LVDS39P (io), 148 VCCIO3@4 (io), 149 IO_LVDS38N (io), 150 IO_LVDS38P (io), 151 IO_PLL2_OUTP (io), 152 IO_PLL2_OUTN (io)
part C pins: 5 IO_LVDS14P (io), 6 IO_LVDS14N (io), 7 VCCIO1@1 (io), 8 IO_LVDS13P (io), 10 IO_LVDS13N (io), 11 IO_LVDS12P (io), 12 IO_LVDS12N (io), 13 IO_VREFB1N0 (io), 14 IO_LVDS8P (io), 15 IO_LVDS8N (io), 23 CLK0_LVDSCLK0P (io), 24 CLK1_LVDSCLK0N (io), 27 CLK2_LVDSCLK1P (io), 28 CLK3_LVDSCLK1N (io), 29 VCCIO1@4 (io), 30 IO_LVDS7P (io), 31 IO_LVDS7N (io), 33 IO_LVDS6N (io), 34 IO@2 (io), 35 IO_LVDS5P (io), 37 IO_VREFB1N1 (io), 39 IO_LVDS3N (io), 40 IO_LVDS2P (io), 41 IO_LVDS2N (io), 42 VCCIO1@6 (io), 43 IO@3 (io), 44 IO_LVDS0P (io), 45 IO_LVDS0N (io), 46 IO@4 (io), 47 IO_PLL1_OUTP (io), 48 IO_PLL1_OUTN (io)
part D pins: 57 IO_LVDS77P (io), 58 IO_LVDS76P (io), 59 IO_LVDS76N (io), 60 IO_LVDS75P (io), 61 IO_LVDS75N (io), 62 VCCIO4@1 (io), 63 IO_LVDS74P (io), 64 IO_LVDS74N (io), 67 IO_VREFB4N1 (io), 68 IO_LVDS70P (io), 69 IO_LVDS70N (io), 70 IO_LVDS68P (io), 71 VCCIO4@2 (io), 72 IO_LVDS68N (io), 74 IO_LVDS67P (io), 75 IO_LVDS67N (io), 76 IO_LVDS66P (io), 77 IO_LVDS66N (io), 80 IO@1 (io), 81 IO_LVDS64P (io), 82 IO_LVDS64N (io), 83 VCCIO4@3 (io), 84 IO_LVDS63P (io), 86 IO_LVDS63N (io), 87 IO_LVDS62P (io), 88 IO_LVDS62N (io), 89 IO_VREFB4N0 (io), 90 IO_LVDS61P (io), 91 VCCIO4@4 (io), 92 IO_LVDS61N (io), 94 IO_LVDS60P (io), 95 IO_LVDS60N (io), 96 IO@2 (io), 97 IO_LVDS59P (io), 98 VCCIO4@5 (io), 99 IO_LVDS59N (io), 101 IO_LVDS58P (io), 102 IO_LVDS58N (io), 103 IO_LVDS57P (io), 104 IO_LVDS57N (io)
part E pins: 9 GND@1 (power), 25 GND@2 (power), 32 VCCINT@1 (power), 36 GND@3 (power), 38 GND@4 (power), 49 GND@5 (power), 55 GND@6 (power), 65 GND@7 (power), 66 VCCINT@2 (power), 73 GND@8 (power), 78 GND@9 (power), 79 VCCINT@3 (power), 85 GND@10 (power), 93 GND@11 (power), 100 GND@12 (power), 111 GND@13 (power), 119 GND@14 (power), 120 VCCINT@4 (power), 124 GND@15 (io), 140 GND@16 (io), 153 GND@17 (io), 159 GND@18 (io), 167 GND@19 (io), 174 GND@20 (io), 177 GND@21 (io), 178 VCCINT@5 (power), 184 GND@22 (io), 186 GND@23 (io), 190 VCCINT@6 (power), 196 GND@24 (io), 204 GND@25 (io)
part F pins: 160 IO_LVDS37N (io), 161 IO_LVDS37P (io), 162 IO_LVDS36N (io), 163 IO_LVDS36P (io), 164 IO_LVDS35N (io), 165 IO_LVDS35P (io), 166 VCCIO2@1 (io), 168 IO_LVDS34N (io), 169 IO_LVDS34P (io), 170 IO_VREFB2N0 (io), 171 IO_LVDS33N (io), 172 VCCIO2@2 (io), 173 IO_LVDS33P (io), 175 IO_LVDS31N (io), 176 IO_LVDS31P (io), 179 IO_LVDS29N (io), 180 IO_LVDS29P (io), 181 IO_LVDS28N (io), 182 IO_LVDS28P (io), 183 VCCIO2@3 (io), 185 IO_LVDS26P (io), 187 IO_LVDS25N (io), 188 IO_LVDS25P (io), 189 IO_LVDS24N (io), 191 IO_LVDS24P (io), 192 IO_VREFB2N1 (io), 193 IO_LVDS23N (io), 194 VCCIO2@4 (io), 195 IO_LVDS23P (io), 197 IO_LVDS21N (io), 198 IO_LVDS21P (io), 199 IO_LVDS19N (io), 200 IO_LVDS19P (io), 201 IO_LVDS18N (io), 202 VCCIO2@5 (io), 203 IO_LVDS18P (io), 205 IO_LVDS17P (io), 206 IO_LVDS17N (io), 207 IO_LVDS16P (io), 208 IO_LVDS16N (io)
part G pins: 1 ASDO (io), 2 NCSO (io), 3 CRC_ERROR (io), 4 CLKUSR (io), 16 TDO (io), 17 TMS (io), 18 TCK (io), 19 TDI (io), 20 DATA0 (io), 21 DCLK (io), 22 NCE (io), 26 NCONFIG (io), 56 DEV_OE (io), 107 INIT_DONE (io), 108 NCEO (io), 121 NSTATUS (io), 123 CONF_DONE (io), 125 MSEL1 (io), 126 MSEL0 (io)

## EP2C8_PQ208_2
designator ?, comment Altera Cyclone2 FPGA, PQFP-208  Not in catalog  (value not drawn)
GateName_1: G$2; SymbolName_1: EP2C20_PQ208_PLL; GateName_2: G$6; SymbolName_2: EP2C20_PQ208_B3; GateName_3: G$4; SymbolName_3: EP2C20_PQ208_B1; GateName_4: G$3; SymbolName_4: EP2C20_PQ208_B4; GateName_5: G$7; SymbolName_5: EP2C20_PQ208_POWER; GateName_6: G$5; SymbolName_6: EP2C20_PQ208_B2; GateName_7: G$1; SymbolName_7: EP2C20_PQ208_CONFIG; DeviceSetName: EP2C8_PQ208; LibraryName: SparkFun-Retired; Package: PQFP208
footprint PQFP208
part A pins: 50 GND_PLL1 (power), 51 VCCD_PLL1 (power), 52 GND_PLL1@1 (power), 53 VCCA_PLL1 (power), 54 GNDA_PLL1 (power), 154 GND_PLL2 (power), 155 VCCD_PLL2 (power), 156 GND_PLL2@1 (power), 157 VCCA_PLL2 (power), 158 GNDA_PLL2 (power)
part B pins: 105 IO_LVDS56N (io), 106 IO_LVDS56P (io), 109 VCCIO3@1 (io), 110 IO_LVDS53N (io), 112 IO_LVDS53P (io), 113 IO_LVDS52N (io), 114 IO_LVDS52P (io), 115 IO_LVDS51N (io), 116 IO_LVDS51P (io), 117 IO_VREFB3N1 (io), 118 IO@1 (io), 122 VCCIO3@2 (io), 127 IO_LVDS48N (io), 128 IO_LVDS48P (io), 129 CLK7_LVDSCLK3N (io), 130 CLK6_LVDSCLK3P (io), 131 CLK5_LVDSCLK2N (io), 132 CLK4_LVDSCLK2P (io), 133 IO_LVDS47N (io), 134 IO_LVDS47P (io), 135 IO_LVDS46N (io), 136 VCCIO3@3 (io), 137 IO_LVDS46P (io), 138 IO_LVDS45N (io), 139 IO_LVDS45P (io), 141 IO_LVDS44N (io), 142 IO_LVDS44P (io), 143 IO_LVDS42N (io), 144 IO_LVDS42P (io), 145 IO_VREFB3N0 (io), 146 IO_LVDS39N (io), 147 IO_LVDS39P (io), 148 VCCIO3@4 (io), 149 IO_LVDS38N (io), 150 IO_LVDS38P (io), 151 IO_PLL2_OUTP (io), 152 IO_PLL2_OUTN (io)
part C pins: 5 IO_LVDS14P (io), 6 IO_LVDS14N (io), 7 VCCIO1@1 (io), 8 IO_LVDS13P (io), 10 IO_LVDS13N (io), 11 IO_LVDS12P (io), 12 IO_LVDS12N (io), 13 IO_VREFB1N0 (io), 14 IO_LVDS8P (io), 15 IO_LVDS8N (io), 23 CLK0_LVDSCLK0P (io), 24 CLK1_LVDSCLK0N (io), 27 CLK2_LVDSCLK1P (io), 28 CLK3_LVDSCLK1N (io), 29 VCCIO1@4 (io), 30 IO_LVDS7P (io), 31 IO_LVDS7N (io), 33 IO_LVDS6N (io), 34 IO@2 (io), 35 IO_LVDS5P (io), 37 IO_VREFB1N1 (io), 39 IO_LVDS3N (io), 40 IO_LVDS2P (io), 41 IO_LVDS2N (io), 42 VCCIO1@6 (io), 43 IO@3 (io), 44 IO_LVDS0P (io), 45 IO_LVDS0N (io), 46 IO@4 (io), 47 IO_PLL1_OUTP (io), 48 IO_PLL1_OUTN (io)
part D pins: 57 IO_LVDS77P (io), 58 IO_LVDS76P (io), 59 IO_LVDS76N (io), 60 IO_LVDS75P (io), 61 IO_LVDS75N (io), 62 VCCIO4@1 (io), 63 IO_LVDS74P (io), 64 IO_LVDS74N (io), 67 IO_VREFB4N1 (io), 68 IO_LVDS70P (io), 69 IO_LVDS70N (io), 70 IO_LVDS68P (io), 71 VCCIO4@2 (io), 72 IO_LVDS68N (io), 74 IO_LVDS67P (io), 75 IO_LVDS67N (io), 76 IO_LVDS66P (io), 77 IO_LVDS66N (io), 80 IO@1 (io), 81 IO_LVDS64P (io), 82 IO_LVDS64N (io), 83 VCCIO4@3 (io), 84 IO_LVDS63P (io), 86 IO_LVDS63N (io), 87 IO_LVDS62P (io), 88 IO_LVDS62N (io), 89 IO_VREFB4N0 (io), 90 IO_LVDS61P (io), 91 VCCIO4@4 (io), 92 IO_LVDS61N (io), 94 IO_LVDS60P (io), 95 IO_LVDS60N (io), 96 IO@2 (io), 97 IO_LVDS59P (io), 98 VCCIO4@5 (io), 99 IO_LVDS59N (io), 101 IO_LVDS58P (io), 102 IO_LVDS58N (io), 103 IO_LVDS57P (io), 104 IO_LVDS57N (io)
part E pins: 9 GND@1 (power), 25 GND@2 (power), 32 VCCINT@1 (power), 36 GND@3 (power), 38 GND@4 (power), 49 GND@5 (power), 55 GND@6 (power), 65 GND@7 (power), 66 VCCINT@2 (power), 73 GND@8 (power), 78 GND@9 (power), 79 VCCINT@3 (power), 85 GND@10 (power), 93 GND@11 (power), 100 GND@12 (power), 111 GND@13 (power), 119 GND@14 (power), 120 VCCINT@4 (power), 124 GND@15 (io), 140 GND@16 (io), 153 GND@17 (io), 159 GND@18 (io), 167 GND@19 (io), 174 GND@20 (io), 177 GND@21 (io), 178 VCCINT@5 (power), 184 GND@22 (io), 186 GND@23 (io), 190 VCCINT@6 (power), 196 GND@24 (io), 204 GND@25 (io)
part F pins: 160 IO_LVDS37N (io), 161 IO_LVDS37P (io), 162 IO_LVDS36N (io), 163 IO_LVDS36P (io), 164 IO_LVDS35N (io), 165 IO_LVDS35P (io), 166 VCCIO2@1 (io), 168 IO_LVDS34N (io), 169 IO_LVDS34P (io), 170 IO_VREFB2N0 (io), 171 IO_LVDS33N (io), 172 VCCIO2@2 (io), 173 IO_LVDS33P (io), 175 IO_LVDS31N (io), 176 IO_LVDS31P (io), 179 IO_LVDS29N (io), 180 IO_LVDS29P (io), 181 IO_LVDS28N (io), 182 IO_LVDS28P (io), 183 VCCIO2@3 (io), 185 IO_LVDS26P (io), 187 IO_LVDS25N (io), 188 IO_LVDS25P (io), 189 IO_LVDS24N (io), 191 IO_LVDS24P (io), 192 IO_VREFB2N1 (io), 193 IO_LVDS23N (io), 194 VCCIO2@4 (io), 195 IO_LVDS23P (io), 197 IO_LVDS21N (io), 198 IO_LVDS21P (io), 199 IO_LVDS19N (io), 200 IO_LVDS19P (io), 201 IO_LVDS18N (io), 202 VCCIO2@5 (io), 203 IO_LVDS18P (io), 205 IO_LVDS17P (io), 206 IO_LVDS17N (io), 207 IO_LVDS16P (io), 208 IO_LVDS16N (io)
part G pins: 1 ASDO (io), 2 NCSO (io), 3 CRC_ERROR (io), 4 CLKUSR (io), 16 TDO (io), 17 TMS (io), 18 TCK (io), 19 TDI (io), 20 DATA0 (io), 21 DCLK (io), 22 NCE (io), 26 NCONFIG (io), 56 DEV_OE (io), 107 INIT_DONE (io), 108 NCEO (io), 121 NSTATUS (io), 123 CONF_DONE (io), 125 MSEL1 (io), 126 MSEL0 (io)

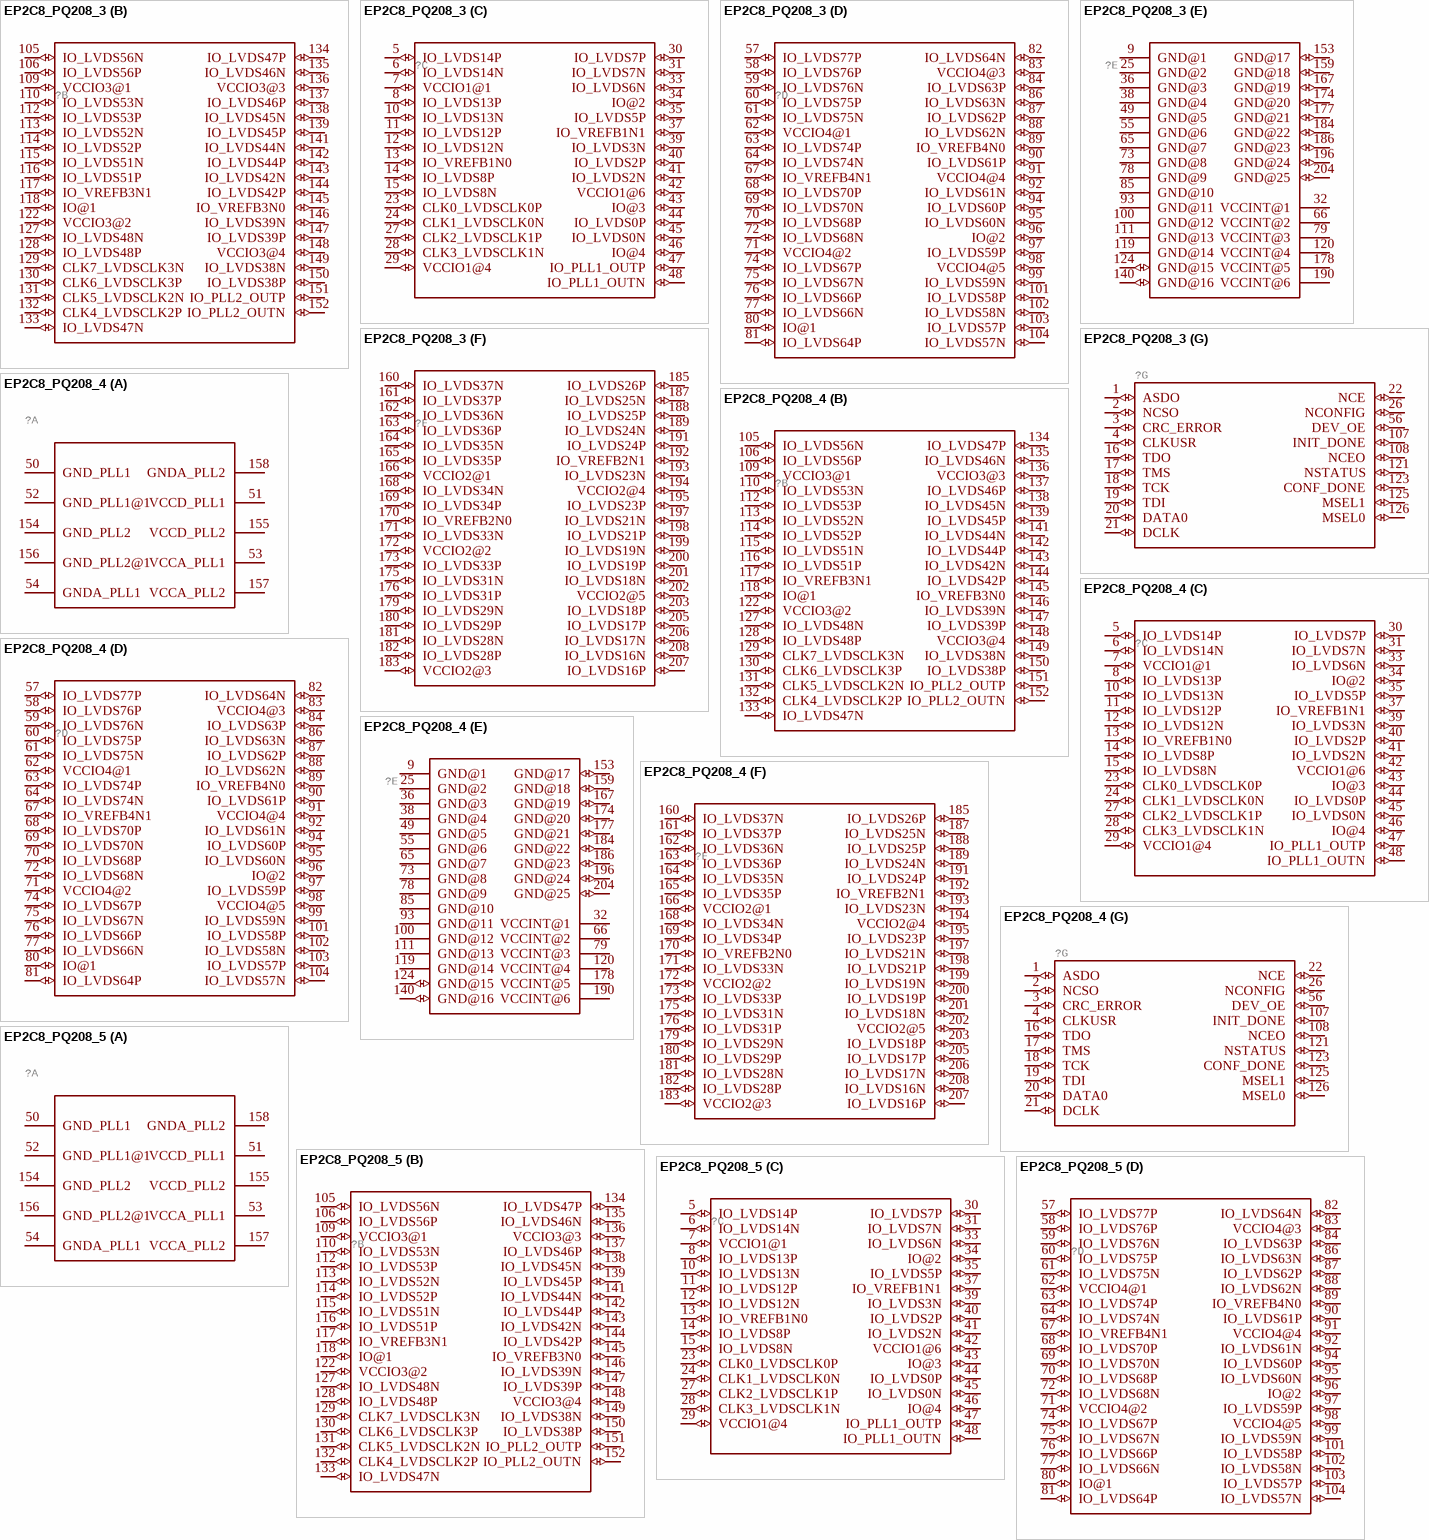
[diagram p13: symbols EP2C8_PQ208_3 to EP2C8_PQ208_5]

## EP2C8_PQ208_3
designator ?, comment Altera Cyclone2 FPGA, PQFP-208  Not in catalog  (value not drawn)
GateName_1: G$2; SymbolName_1: EP2C20_PQ208_PLL; GateName_2: G$6; SymbolName_2: EP2C20_PQ208_B3; GateName_3: G$4; SymbolName_3: EP2C20_PQ208_B1; GateName_4: G$3; SymbolName_4: EP2C20_PQ208_B4; GateName_5: G$7; SymbolName_5: EP2C20_PQ208_POWER; GateName_6: G$5; SymbolName_6: EP2C20_PQ208_B2; GateName_7: G$1; SymbolName_7: EP2C20_PQ208_CONFIG; DeviceSetName: EP2C8_PQ208; LibraryName: SparkFun-Retired; Package: PQFP208
footprint PQFP208
part A pins: 50 GND_PLL1 (power), 51 VCCD_PLL1 (power), 52 GND_PLL1@1 (power), 53 VCCA_PLL1 (power), 54 GNDA_PLL1 (power), 154 GND_PLL2 (power), 155 VCCD_PLL2 (power), 156 GND_PLL2@1 (power), 157 VCCA_PLL2 (power), 158 GNDA_PLL2 (power)
part B pins: 105 IO_LVDS56N (io), 106 IO_LVDS56P (io), 109 VCCIO3@1 (io), 110 IO_LVDS53N (io), 112 IO_LVDS53P (io), 113 IO_LVDS52N (io), 114 IO_LVDS52P (io), 115 IO_LVDS51N (io), 116 IO_LVDS51P (io), 117 IO_VREFB3N1 (io), 118 IO@1 (io), 122 VCCIO3@2 (io), 127 IO_LVDS48N (io), 128 IO_LVDS48P (io), 129 CLK7_LVDSCLK3N (io), 130 CLK6_LVDSCLK3P (io), 131 CLK5_LVDSCLK2N (io), 132 CLK4_LVDSCLK2P (io), 133 IO_LVDS47N (io), 134 IO_LVDS47P (io), 135 IO_LVDS46N (io), 136 VCCIO3@3 (io), 137 IO_LVDS46P (io), 138 IO_LVDS45N (io), 139 IO_LVDS45P (io), 141 IO_LVDS44N (io), 142 IO_LVDS44P (io), 143 IO_LVDS42N (io), 144 IO_LVDS42P (io), 145 IO_VREFB3N0 (io), 146 IO_LVDS39N (io), 147 IO_LVDS39P (io), 148 VCCIO3@4 (io), 149 IO_LVDS38N (io), 150 IO_LVDS38P (io), 151 IO_PLL2_OUTP (io), 152 IO_PLL2_OUTN (io)
part C pins: 5 IO_LVDS14P (io), 6 IO_LVDS14N (io), 7 VCCIO1@1 (io), 8 IO_LVDS13P (io), 10 IO_LVDS13N (io), 11 IO_LVDS12P (io), 12 IO_LVDS12N (io), 13 IO_VREFB1N0 (io), 14 IO_LVDS8P (io), 15 IO_LVDS8N (io), 23 CLK0_LVDSCLK0P (io), 24 CLK1_LVDSCLK0N (io), 27 CLK2_LVDSCLK1P (io), 28 CLK3_LVDSCLK1N (io), 29 VCCIO1@4 (io), 30 IO_LVDS7P (io), 31 IO_LVDS7N (io), 33 IO_LVDS6N (io), 34 IO@2 (io), 35 IO_LVDS5P (io), 37 IO_VREFB1N1 (io), 39 IO_LVDS3N (io), 40 IO_LVDS2P (io), 41 IO_LVDS2N (io), 42 VCCIO1@6 (io), 43 IO@3 (io), 44 IO_LVDS0P (io), 45 IO_LVDS0N (io), 46 IO@4 (io), 47 IO_PLL1_OUTP (io), 48 IO_PLL1_OUTN (io)
part D pins: 57 IO_LVDS77P (io), 58 IO_LVDS76P (io), 59 IO_LVDS76N (io), 60 IO_LVDS75P (io), 61 IO_LVDS75N (io), 62 VCCIO4@1 (io), 63 IO_LVDS74P (io), 64 IO_LVDS74N (io), 67 IO_VREFB4N1 (io), 68 IO_LVDS70P (io), 69 IO_LVDS70N (io), 70 IO_LVDS68P (io), 71 VCCIO4@2 (io), 72 IO_LVDS68N (io), 74 IO_LVDS67P (io), 75 IO_LVDS67N (io), 76 IO_LVDS66P (io), 77 IO_LVDS66N (io), 80 IO@1 (io), 81 IO_LVDS64P (io), 82 IO_LVDS64N (io), 83 VCCIO4@3 (io), 84 IO_LVDS63P (io), 86 IO_LVDS63N (io), 87 IO_LVDS62P (io), 88 IO_LVDS62N (io), 89 IO_VREFB4N0 (io), 90 IO_LVDS61P (io), 91 VCCIO4@4 (io), 92 IO_LVDS61N (io), 94 IO_LVDS60P (io), 95 IO_LVDS60N (io), 96 IO@2 (io), 97 IO_LVDS59P (io), 98 VCCIO4@5 (io), 99 IO_LVDS59N (io), 101 IO_LVDS58P (io), 102 IO_LVDS58N (io), 103 IO_LVDS57P (io), 104 IO_LVDS57N (io)
part E pins: 9 GND@1 (power), 25 GND@2 (power), 32 VCCINT@1 (power), 36 GND@3 (power), 38 GND@4 (power), 49 GND@5 (power), 55 GND@6 (power), 65 GND@7 (power), 66 VCCINT@2 (power), 73 GND@8 (power), 78 GND@9 (power), 79 VCCINT@3 (power), 85 GND@10 (power), 93 GND@11 (power), 100 GND@12 (power), 111 GND@13 (power), 119 GND@14 (power), 120 VCCINT@4 (power), 124 GND@15 (io), 140 GND@16 (io), 153 GND@17 (io), 159 GND@18 (io), 167 GND@19 (io), 174 GND@20 (io), 177 GND@21 (io), 178 VCCINT@5 (power), 184 GND@22 (io), 186 GND@23 (io), 190 VCCINT@6 (power), 196 GND@24 (io), 204 GND@25 (io)
part F pins: 160 IO_LVDS37N (io), 161 IO_LVDS37P (io), 162 IO_LVDS36N (io), 163 IO_LVDS36P (io), 164 IO_LVDS35N (io), 165 IO_LVDS35P (io), 166 VCCIO2@1 (io), 168 IO_LVDS34N (io), 169 IO_LVDS34P (io), 170 IO_VREFB2N0 (io), 171 IO_LVDS33N (io), 172 VCCIO2@2 (io), 173 IO_LVDS33P (io), 175 IO_LVDS31N (io), 176 IO_LVDS31P (io), 179 IO_LVDS29N (io), 180 IO_LVDS29P (io), 181 IO_LVDS28N (io), 182 IO_LVDS28P (io), 183 VCCIO2@3 (io), 185 IO_LVDS26P (io), 187 IO_LVDS25N (io), 188 IO_LVDS25P (io), 189 IO_LVDS24N (io), 191 IO_LVDS24P (io), 192 IO_VREFB2N1 (io), 193 IO_LVDS23N (io), 194 VCCIO2@4 (io), 195 IO_LVDS23P (io), 197 IO_LVDS21N (io), 198 IO_LVDS21P (io), 199 IO_LVDS19N (io), 200 IO_LVDS19P (io), 201 IO_LVDS18N (io), 202 VCCIO2@5 (io), 203 IO_LVDS18P (io), 205 IO_LVDS17P (io), 206 IO_LVDS17N (io), 207 IO_LVDS16P (io), 208 IO_LVDS16N (io)
part G pins: 1 ASDO (io), 2 NCSO (io), 3 CRC_ERROR (io), 4 CLKUSR (io), 16 TDO (io), 17 TMS (io), 18 TCK (io), 19 TDI (io), 20 DATA0 (io), 21 DCLK (io), 22 NCE (io), 26 NCONFIG (io), 56 DEV_OE (io), 107 INIT_DONE (io), 108 NCEO (io), 121 NSTATUS (io), 123 CONF_DONE (io), 125 MSEL1 (io), 126 MSEL0 (io)

## EP2C8_PQ208_4
designator ?, comment Altera Cyclone2 FPGA, PQFP-208  Not in catalog  (value not drawn)
GateName_1: G$2; SymbolName_1: EP2C20_PQ208_PLL; GateName_2: G$6; SymbolName_2: EP2C20_PQ208_B3; GateName_3: G$4; SymbolName_3: EP2C20_PQ208_B1; GateName_4: G$3; SymbolName_4: EP2C20_PQ208_B4; GateName_5: G$7; SymbolName_5: EP2C20_PQ208_POWER; GateName_6: G$5; SymbolName_6: EP2C20_PQ208_B2; GateName_7: G$1; SymbolName_7: EP2C20_PQ208_CONFIG; DeviceSetName: EP2C8_PQ208; LibraryName: SparkFun-Retired; Package: PQFP208
footprint PQFP208
part A pins: 50 GND_PLL1 (power), 51 VCCD_PLL1 (power), 52 GND_PLL1@1 (power), 53 VCCA_PLL1 (power), 54 GNDA_PLL1 (power), 154 GND_PLL2 (power), 155 VCCD_PLL2 (power), 156 GND_PLL2@1 (power), 157 VCCA_PLL2 (power), 158 GNDA_PLL2 (power)
part B pins: 105 IO_LVDS56N (io), 106 IO_LVDS56P (io), 109 VCCIO3@1 (io), 110 IO_LVDS53N (io), 112 IO_LVDS53P (io), 113 IO_LVDS52N (io), 114 IO_LVDS52P (io), 115 IO_LVDS51N (io), 116 IO_LVDS51P (io), 117 IO_VREFB3N1 (io), 118 IO@1 (io), 122 VCCIO3@2 (io), 127 IO_LVDS48N (io), 128 IO_LVDS48P (io), 129 CLK7_LVDSCLK3N (io), 130 CLK6_LVDSCLK3P (io), 131 CLK5_LVDSCLK2N (io), 132 CLK4_LVDSCLK2P (io), 133 IO_LVDS47N (io), 134 IO_LVDS47P (io), 135 IO_LVDS46N (io), 136 VCCIO3@3 (io), 137 IO_LVDS46P (io), 138 IO_LVDS45N (io), 139 IO_LVDS45P (io), 141 IO_LVDS44N (io), 142 IO_LVDS44P (io), 143 IO_LVDS42N (io), 144 IO_LVDS42P (io), 145 IO_VREFB3N0 (io), 146 IO_LVDS39N (io), 147 IO_LVDS39P (io), 148 VCCIO3@4 (io), 149 IO_LVDS38N (io), 150 IO_LVDS38P (io), 151 IO_PLL2_OUTP (io), 152 IO_PLL2_OUTN (io)
part C pins: 5 IO_LVDS14P (io), 6 IO_LVDS14N (io), 7 VCCIO1@1 (io), 8 IO_LVDS13P (io), 10 IO_LVDS13N (io), 11 IO_LVDS12P (io), 12 IO_LVDS12N (io), 13 IO_VREFB1N0 (io), 14 IO_LVDS8P (io), 15 IO_LVDS8N (io), 23 CLK0_LVDSCLK0P (io), 24 CLK1_LVDSCLK0N (io), 27 CLK2_LVDSCLK1P (io), 28 CLK3_LVDSCLK1N (io), 29 VCCIO1@4 (io), 30 IO_LVDS7P (io), 31 IO_LVDS7N (io), 33 IO_LVDS6N (io), 34 IO@2 (io), 35 IO_LVDS5P (io), 37 IO_VREFB1N1 (io), 39 IO_LVDS3N (io), 40 IO_LVDS2P (io), 41 IO_LVDS2N (io), 42 VCCIO1@6 (io), 43 IO@3 (io), 44 IO_LVDS0P (io), 45 IO_LVDS0N (io), 46 IO@4 (io), 47 IO_PLL1_OUTP (io), 48 IO_PLL1_OUTN (io)
part D pins: 57 IO_LVDS77P (io), 58 IO_LVDS76P (io), 59 IO_LVDS76N (io), 60 IO_LVDS75P (io), 61 IO_LVDS75N (io), 62 VCCIO4@1 (io), 63 IO_LVDS74P (io), 64 IO_LVDS74N (io), 67 IO_VREFB4N1 (io), 68 IO_LVDS70P (io), 69 IO_LVDS70N (io), 70 IO_LVDS68P (io), 71 VCCIO4@2 (io), 72 IO_LVDS68N (io), 74 IO_LVDS67P (io), 75 IO_LVDS67N (io), 76 IO_LVDS66P (io), 77 IO_LVDS66N (io), 80 IO@1 (io), 81 IO_LVDS64P (io), 82 IO_LVDS64N (io), 83 VCCIO4@3 (io), 84 IO_LVDS63P (io), 86 IO_LVDS63N (io), 87 IO_LVDS62P (io), 88 IO_LVDS62N (io), 89 IO_VREFB4N0 (io), 90 IO_LVDS61P (io), 91 VCCIO4@4 (io), 92 IO_LVDS61N (io), 94 IO_LVDS60P (io), 95 IO_LVDS60N (io), 96 IO@2 (io), 97 IO_LVDS59P (io), 98 VCCIO4@5 (io), 99 IO_LVDS59N (io), 101 IO_LVDS58P (io), 102 IO_LVDS58N (io), 103 IO_LVDS57P (io), 104 IO_LVDS57N (io)
part E pins: 9 GND@1 (power), 25 GND@2 (power), 32 VCCINT@1 (power), 36 GND@3 (power), 38 GND@4 (power), 49 GND@5 (power), 55 GND@6 (power), 65 GND@7 (power), 66 VCCINT@2 (power), 73 GND@8 (power), 78 GND@9 (power), 79 VCCINT@3 (power), 85 GND@10 (power), 93 GND@11 (power), 100 GND@12 (power), 111 GND@13 (power), 119 GND@14 (power), 120 VCCINT@4 (power), 124 GND@15 (io), 140 GND@16 (io), 153 GND@17 (io), 159 GND@18 (io), 167 GND@19 (io), 174 GND@20 (io), 177 GND@21 (io), 178 VCCINT@5 (power), 184 GND@22 (io), 186 GND@23 (io), 190 VCCINT@6 (power), 196 GND@24 (io), 204 GND@25 (io)
part F pins: 160 IO_LVDS37N (io), 161 IO_LVDS37P (io), 162 IO_LVDS36N (io), 163 IO_LVDS36P (io), 164 IO_LVDS35N (io), 165 IO_LVDS35P (io), 166 VCCIO2@1 (io), 168 IO_LVDS34N (io), 169 IO_LVDS34P (io), 170 IO_VREFB2N0 (io), 171 IO_LVDS33N (io), 172 VCCIO2@2 (io), 173 IO_LVDS33P (io), 175 IO_LVDS31N (io), 176 IO_LVDS31P (io), 179 IO_LVDS29N (io), 180 IO_LVDS29P (io), 181 IO_LVDS28N (io), 182 IO_LVDS28P (io), 183 VCCIO2@3 (io), 185 IO_LVDS26P (io), 187 IO_LVDS25N (io), 188 IO_LVDS25P (io), 189 IO_LVDS24N (io), 191 IO_LVDS24P (io), 192 IO_VREFB2N1 (io), 193 IO_LVDS23N (io), 194 VCCIO2@4 (io), 195 IO_LVDS23P (io), 197 IO_LVDS21N (io), 198 IO_LVDS21P (io), 199 IO_LVDS19N (io), 200 IO_LVDS19P (io), 201 IO_LVDS18N (io), 202 VCCIO2@5 (io), 203 IO_LVDS18P (io), 205 IO_LVDS17P (io), 206 IO_LVDS17N (io), 207 IO_LVDS16P (io), 208 IO_LVDS16N (io)
part G pins: 1 ASDO (io), 2 NCSO (io), 3 CRC_ERROR (io), 4 CLKUSR (io), 16 TDO (io), 17 TMS (io), 18 TCK (io), 19 TDI (io), 20 DATA0 (io), 21 DCLK (io), 22 NCE (io), 26 NCONFIG (io), 56 DEV_OE (io), 107 INIT_DONE (io), 108 NCEO (io), 121 NSTATUS (io), 123 CONF_DONE (io), 125 MSEL1 (io), 126 MSEL0 (io)

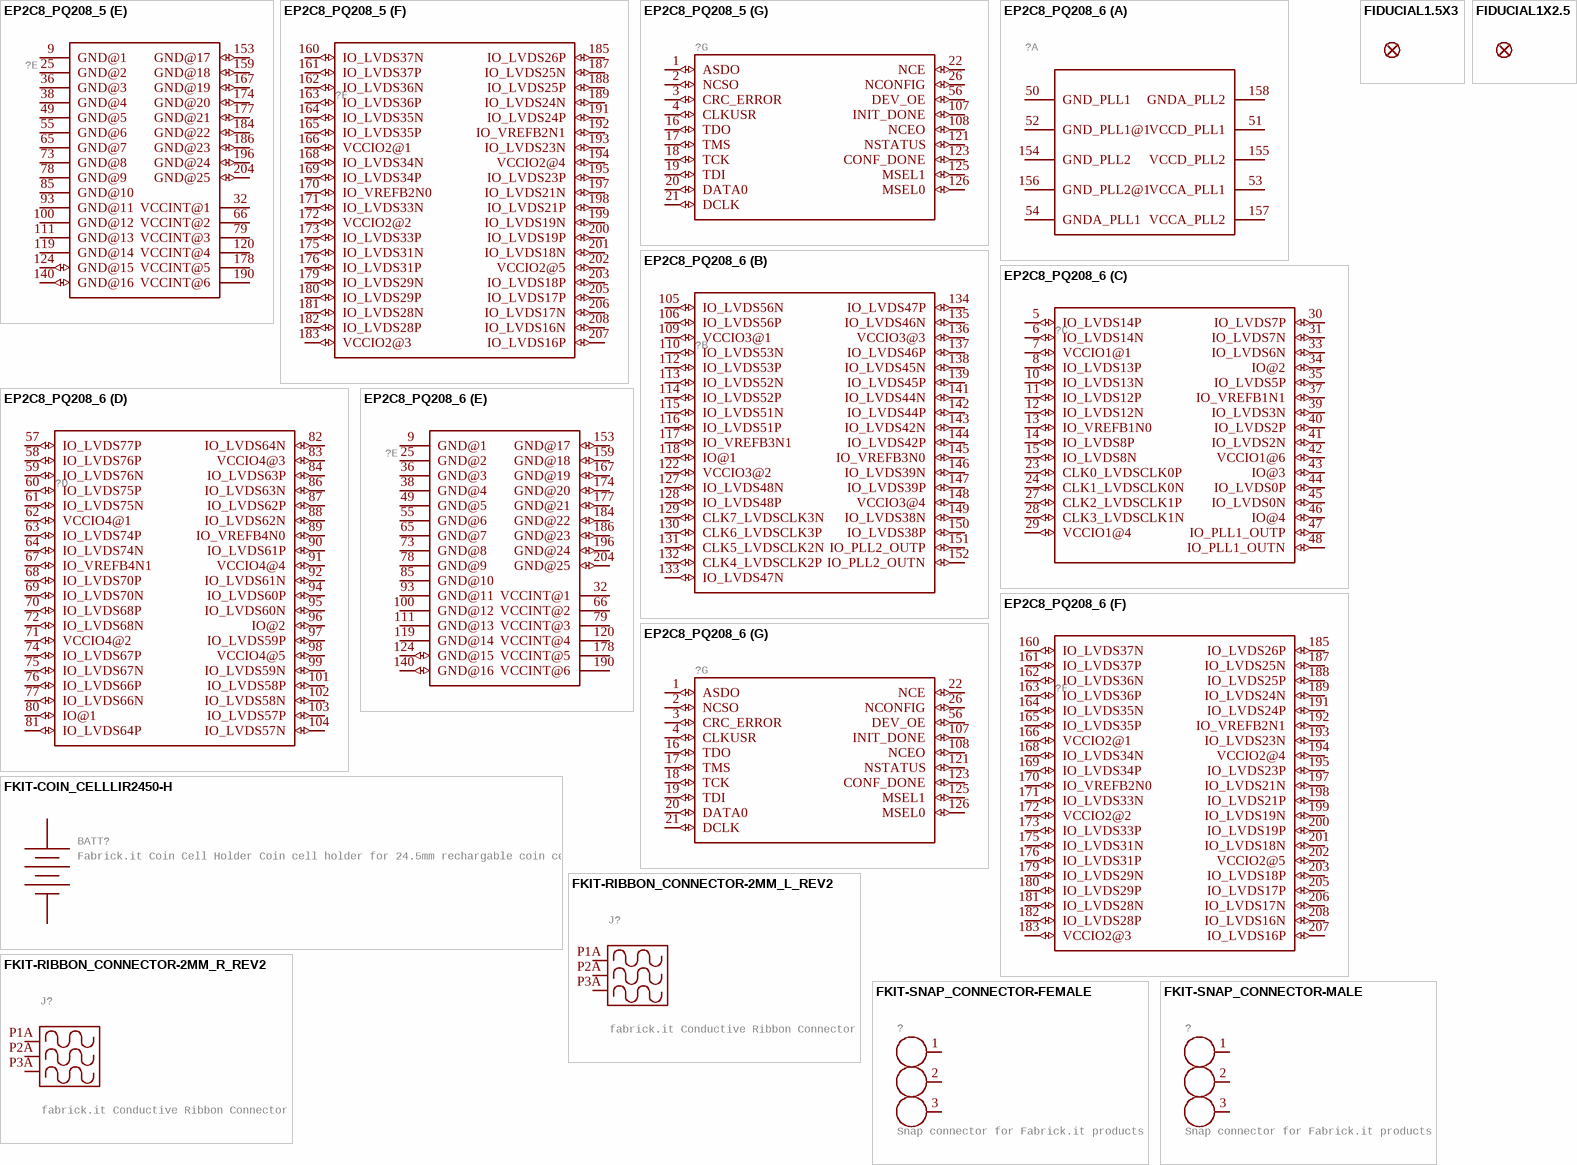
[diagram p14: symbols EP2C8_PQ208_5 to FKIT-SNAP_CONNECTOR-MALE]

## EP2C8_PQ208_5
designator ?, comment Altera Cyclone2 FPGA, PQFP-208  Not in catalog  (value not drawn)
GateName_1: G$2; SymbolName_1: EP2C20_PQ208_PLL; GateName_2: G$6; SymbolName_2: EP2C20_PQ208_B3; GateName_3: G$4; SymbolName_3: EP2C20_PQ208_B1; GateName_4: G$3; SymbolName_4: EP2C20_PQ208_B4; GateName_5: G$7; SymbolName_5: EP2C20_PQ208_POWER; GateName_6: G$5; SymbolName_6: EP2C20_PQ208_B2; GateName_7: G$1; SymbolName_7: EP2C20_PQ208_CONFIG; DeviceSetName: EP2C8_PQ208; LibraryName: SparkFun-Retired; Package: PQFP208
footprint PQFP208
part A pins: 50 GND_PLL1 (power), 51 VCCD_PLL1 (power), 52 GND_PLL1@1 (power), 53 VCCA_PLL1 (power), 54 GNDA_PLL1 (power), 154 GND_PLL2 (power), 155 VCCD_PLL2 (power), 156 GND_PLL2@1 (power), 157 VCCA_PLL2 (power), 158 GNDA_PLL2 (power)
part B pins: 105 IO_LVDS56N (io), 106 IO_LVDS56P (io), 109 VCCIO3@1 (io), 110 IO_LVDS53N (io), 112 IO_LVDS53P (io), 113 IO_LVDS52N (io), 114 IO_LVDS52P (io), 115 IO_LVDS51N (io), 116 IO_LVDS51P (io), 117 IO_VREFB3N1 (io), 118 IO@1 (io), 122 VCCIO3@2 (io), 127 IO_LVDS48N (io), 128 IO_LVDS48P (io), 129 CLK7_LVDSCLK3N (io), 130 CLK6_LVDSCLK3P (io), 131 CLK5_LVDSCLK2N (io), 132 CLK4_LVDSCLK2P (io), 133 IO_LVDS47N (io), 134 IO_LVDS47P (io), 135 IO_LVDS46N (io), 136 VCCIO3@3 (io), 137 IO_LVDS46P (io), 138 IO_LVDS45N (io), 139 IO_LVDS45P (io), 141 IO_LVDS44N (io), 142 IO_LVDS44P (io), 143 IO_LVDS42N (io), 144 IO_LVDS42P (io), 145 IO_VREFB3N0 (io), 146 IO_LVDS39N (io), 147 IO_LVDS39P (io), 148 VCCIO3@4 (io), 149 IO_LVDS38N (io), 150 IO_LVDS38P (io), 151 IO_PLL2_OUTP (io), 152 IO_PLL2_OUTN (io)
part C pins: 5 IO_LVDS14P (io), 6 IO_LVDS14N (io), 7 VCCIO1@1 (io), 8 IO_LVDS13P (io), 10 IO_LVDS13N (io), 11 IO_LVDS12P (io), 12 IO_LVDS12N (io), 13 IO_VREFB1N0 (io), 14 IO_LVDS8P (io), 15 IO_LVDS8N (io), 23 CLK0_LVDSCLK0P (io), 24 CLK1_LVDSCLK0N (io), 27 CLK2_LVDSCLK1P (io), 28 CLK3_LVDSCLK1N (io), 29 VCCIO1@4 (io), 30 IO_LVDS7P (io), 31 IO_LVDS7N (io), 33 IO_LVDS6N (io), 34 IO@2 (io), 35 IO_LVDS5P (io), 37 IO_VREFB1N1 (io), 39 IO_LVDS3N (io), 40 IO_LVDS2P (io), 41 IO_LVDS2N (io), 42 VCCIO1@6 (io), 43 IO@3 (io), 44 IO_LVDS0P (io), 45 IO_LVDS0N (io), 46 IO@4 (io), 47 IO_PLL1_OUTP (io), 48 IO_PLL1_OUTN (io)
part D pins: 57 IO_LVDS77P (io), 58 IO_LVDS76P (io), 59 IO_LVDS76N (io), 60 IO_LVDS75P (io), 61 IO_LVDS75N (io), 62 VCCIO4@1 (io), 63 IO_LVDS74P (io), 64 IO_LVDS74N (io), 67 IO_VREFB4N1 (io), 68 IO_LVDS70P (io), 69 IO_LVDS70N (io), 70 IO_LVDS68P (io), 71 VCCIO4@2 (io), 72 IO_LVDS68N (io), 74 IO_LVDS67P (io), 75 IO_LVDS67N (io), 76 IO_LVDS66P (io), 77 IO_LVDS66N (io), 80 IO@1 (io), 81 IO_LVDS64P (io), 82 IO_LVDS64N (io), 83 VCCIO4@3 (io), 84 IO_LVDS63P (io), 86 IO_LVDS63N (io), 87 IO_LVDS62P (io), 88 IO_LVDS62N (io), 89 IO_VREFB4N0 (io), 90 IO_LVDS61P (io), 91 VCCIO4@4 (io), 92 IO_LVDS61N (io), 94 IO_LVDS60P (io), 95 IO_LVDS60N (io), 96 IO@2 (io), 97 IO_LVDS59P (io), 98 VCCIO4@5 (io), 99 IO_LVDS59N (io), 101 IO_LVDS58P (io), 102 IO_LVDS58N (io), 103 IO_LVDS57P (io), 104 IO_LVDS57N (io)
part E pins: 9 GND@1 (power), 25 GND@2 (power), 32 VCCINT@1 (power), 36 GND@3 (power), 38 GND@4 (power), 49 GND@5 (power), 55 GND@6 (power), 65 GND@7 (power), 66 VCCINT@2 (power), 73 GND@8 (power), 78 GND@9 (power), 79 VCCINT@3 (power), 85 GND@10 (power), 93 GND@11 (power), 100 GND@12 (power), 111 GND@13 (power), 119 GND@14 (power), 120 VCCINT@4 (power), 124 GND@15 (io), 140 GND@16 (io), 153 GND@17 (io), 159 GND@18 (io), 167 GND@19 (io), 174 GND@20 (io), 177 GND@21 (io), 178 VCCINT@5 (power), 184 GND@22 (io), 186 GND@23 (io), 190 VCCINT@6 (power), 196 GND@24 (io), 204 GND@25 (io)
part F pins: 160 IO_LVDS37N (io), 161 IO_LVDS37P (io), 162 IO_LVDS36N (io), 163 IO_LVDS36P (io), 164 IO_LVDS35N (io), 165 IO_LVDS35P (io), 166 VCCIO2@1 (io), 168 IO_LVDS34N (io), 169 IO_LVDS34P (io), 170 IO_VREFB2N0 (io), 171 IO_LVDS33N (io), 172 VCCIO2@2 (io), 173 IO_LVDS33P (io), 175 IO_LVDS31N (io), 176 IO_LVDS31P (io), 179 IO_LVDS29N (io), 180 IO_LVDS29P (io), 181 IO_LVDS28N (io), 182 IO_LVDS28P (io), 183 VCCIO2@3 (io), 185 IO_LVDS26P (io), 187 IO_LVDS25N (io), 188 IO_LVDS25P (io), 189 IO_LVDS24N (io), 191 IO_LVDS24P (io), 192 IO_VREFB2N1 (io), 193 IO_LVDS23N (io), 194 VCCIO2@4 (io), 195 IO_LVDS23P (io), 197 IO_LVDS21N (io), 198 IO_LVDS21P (io), 199 IO_LVDS19N (io), 200 IO_LVDS19P (io), 201 IO_LVDS18N (io), 202 VCCIO2@5 (io), 203 IO_LVDS18P (io), 205 IO_LVDS17P (io), 206 IO_LVDS17N (io), 207 IO_LVDS16P (io), 208 IO_LVDS16N (io)
part G pins: 1 ASDO (io), 2 NCSO (io), 3 CRC_ERROR (io), 4 CLKUSR (io), 16 TDO (io), 17 TMS (io), 18 TCK (io), 19 TDI (io), 20 DATA0 (io), 21 DCLK (io), 22 NCE (io), 26 NCONFIG (io), 56 DEV_OE (io), 107 INIT_DONE (io), 108 NCEO (io), 121 NSTATUS (io), 123 CONF_DONE (io), 125 MSEL1 (io), 126 MSEL0 (io)

## EP2C8_PQ208_6
designator ?, comment Altera Cyclone2 FPGA, PQFP-208  Not in catalog  (value not drawn)
GateName_1: G$2; SymbolName_1: EP2C20_PQ208_PLL; GateName_2: G$6; SymbolName_2: EP2C20_PQ208_B3; GateName_3: G$4; SymbolName_3: EP2C20_PQ208_B1; GateName_4: G$3; SymbolName_4: EP2C20_PQ208_B4; GateName_5: G$7; SymbolName_5: EP2C20_PQ208_POWER; GateName_6: G$5; SymbolName_6: EP2C20_PQ208_B2; GateName_7: G$1; SymbolName_7: EP2C20_PQ208_CONFIG; DeviceSetName: EP2C8_PQ208; LibraryName: SparkFun-Retired; Package: PQFP208
footprint PQFP208
part A pins: 50 GND_PLL1 (power), 51 VCCD_PLL1 (power), 52 GND_PLL1@1 (power), 53 VCCA_PLL1 (power), 54 GNDA_PLL1 (power), 154 GND_PLL2 (power), 155 VCCD_PLL2 (power), 156 GND_PLL2@1 (power), 157 VCCA_PLL2 (power), 158 GNDA_PLL2 (power)
part B pins: 105 IO_LVDS56N (io), 106 IO_LVDS56P (io), 109 VCCIO3@1 (io), 110 IO_LVDS53N (io), 112 IO_LVDS53P (io), 113 IO_LVDS52N (io), 114 IO_LVDS52P (io), 115 IO_LVDS51N (io), 116 IO_LVDS51P (io), 117 IO_VREFB3N1 (io), 118 IO@1 (io), 122 VCCIO3@2 (io), 127 IO_LVDS48N (io), 128 IO_LVDS48P (io), 129 CLK7_LVDSCLK3N (io), 130 CLK6_LVDSCLK3P (io), 131 CLK5_LVDSCLK2N (io), 132 CLK4_LVDSCLK2P (io), 133 IO_LVDS47N (io), 134 IO_LVDS47P (io), 135 IO_LVDS46N (io), 136 VCCIO3@3 (io), 137 IO_LVDS46P (io), 138 IO_LVDS45N (io), 139 IO_LVDS45P (io), 141 IO_LVDS44N (io), 142 IO_LVDS44P (io), 143 IO_LVDS42N (io), 144 IO_LVDS42P (io), 145 IO_VREFB3N0 (io), 146 IO_LVDS39N (io), 147 IO_LVDS39P (io), 148 VCCIO3@4 (io), 149 IO_LVDS38N (io), 150 IO_LVDS38P (io), 151 IO_PLL2_OUTP (io), 152 IO_PLL2_OUTN (io)
part C pins: 5 IO_LVDS14P (io), 6 IO_LVDS14N (io), 7 VCCIO1@1 (io), 8 IO_LVDS13P (io), 10 IO_LVDS13N (io), 11 IO_LVDS12P (io), 12 IO_LVDS12N (io), 13 IO_VREFB1N0 (io), 14 IO_LVDS8P (io), 15 IO_LVDS8N (io), 23 CLK0_LVDSCLK0P (io), 24 CLK1_LVDSCLK0N (io), 27 CLK2_LVDSCLK1P (io), 28 CLK3_LVDSCLK1N (io), 29 VCCIO1@4 (io), 30 IO_LVDS7P (io), 31 IO_LVDS7N (io), 33 IO_LVDS6N (io), 34 IO@2 (io), 35 IO_LVDS5P (io), 37 IO_VREFB1N1 (io), 39 IO_LVDS3N (io), 40 IO_LVDS2P (io), 41 IO_LVDS2N (io), 42 VCCIO1@6 (io), 43 IO@3 (io), 44 IO_LVDS0P (io), 45 IO_LVDS0N (io), 46 IO@4 (io), 47 IO_PLL1_OUTP (io), 48 IO_PLL1_OUTN (io)
part D pins: 57 IO_LVDS77P (io), 58 IO_LVDS76P (io), 59 IO_LVDS76N (io), 60 IO_LVDS75P (io), 61 IO_LVDS75N (io), 62 VCCIO4@1 (io), 63 IO_LVDS74P (io), 64 IO_LVDS74N (io), 67 IO_VREFB4N1 (io), 68 IO_LVDS70P (io), 69 IO_LVDS70N (io), 70 IO_LVDS68P (io), 71 VCCIO4@2 (io), 72 IO_LVDS68N (io), 74 IO_LVDS67P (io), 75 IO_LVDS67N (io), 76 IO_LVDS66P (io), 77 IO_LVDS66N (io), 80 IO@1 (io), 81 IO_LVDS64P (io), 82 IO_LVDS64N (io), 83 VCCIO4@3 (io), 84 IO_LVDS63P (io), 86 IO_LVDS63N (io), 87 IO_LVDS62P (io), 88 IO_LVDS62N (io), 89 IO_VREFB4N0 (io), 90 IO_LVDS61P (io), 91 VCCIO4@4 (io), 92 IO_LVDS61N (io), 94 IO_LVDS60P (io), 95 IO_LVDS60N (io), 96 IO@2 (io), 97 IO_LVDS59P (io), 98 VCCIO4@5 (io), 99 IO_LVDS59N (io), 101 IO_LVDS58P (io), 102 IO_LVDS58N (io), 103 IO_LVDS57P (io), 104 IO_LVDS57N (io)
part E pins: 9 GND@1 (power), 25 GND@2 (power), 32 VCCINT@1 (power), 36 GND@3 (power), 38 GND@4 (power), 49 GND@5 (power), 55 GND@6 (power), 65 GND@7 (power), 66 VCCINT@2 (power), 73 GND@8 (power), 78 GND@9 (power), 79 VCCINT@3 (power), 85 GND@10 (power), 93 GND@11 (power), 100 GND@12 (power), 111 GND@13 (power), 119 GND@14 (power), 120 VCCINT@4 (power), 124 GND@15 (io), 140 GND@16 (io), 153 GND@17 (io), 159 GND@18 (io), 167 GND@19 (io), 174 GND@20 (io), 177 GND@21 (io), 178 VCCINT@5 (power), 184 GND@22 (io), 186 GND@23 (io), 190 VCCINT@6 (power), 196 GND@24 (io), 204 GND@25 (io)
part F pins: 160 IO_LVDS37N (io), 161 IO_LVDS37P (io), 162 IO_LVDS36N (io), 163 IO_LVDS36P (io), 164 IO_LVDS35N (io), 165 IO_LVDS35P (io), 166 VCCIO2@1 (io), 168 IO_LVDS34N (io), 169 IO_LVDS34P (io), 170 IO_VREFB2N0 (io), 171 IO_LVDS33N (io), 172 VCCIO2@2 (io), 173 IO_LVDS33P (io), 175 IO_LVDS31N (io), 176 IO_LVDS31P (io), 179 IO_LVDS29N (io), 180 IO_LVDS29P (io), 181 IO_LVDS28N (io), 182 IO_LVDS28P (io), 183 VCCIO2@3 (io), 185 IO_LVDS26P (io), 187 IO_LVDS25N (io), 188 IO_LVDS25P (io), 189 IO_LVDS24N (io), 191 IO_LVDS24P (io), 192 IO_VREFB2N1 (io), 193 IO_LVDS23N (io), 194 VCCIO2@4 (io), 195 IO_LVDS23P (io), 197 IO_LVDS21N (io), 198 IO_LVDS21P (io), 199 IO_LVDS19N (io), 200 IO_LVDS19P (io), 201 IO_LVDS18N (io), 202 VCCIO2@5 (io), 203 IO_LVDS18P (io), 205 IO_LVDS17P (io), 206 IO_LVDS17N (io), 207 IO_LVDS16P (io), 208 IO_LVDS16N (io)
part G pins: 1 ASDO (io), 2 NCSO (io), 3 CRC_ERROR (io), 4 CLKUSR (io), 16 TDO (io), 17 TMS (io), 18 TCK (io), 19 TDI (io), 20 DATA0 (io), 21 DCLK (io), 22 NCE (io), 26 NCONFIG (io), 56 DEV_OE (io), 107 INIT_DONE (io), 108 NCEO (io), 121 NSTATUS (io), 123 CONF_DONE (io), 125 MSEL1 (io), 126 MSEL0 (io)

## FIDUCIAL1.5X3
designator FID?, comment Fiducial Alignment PointsVarious fiducial points for machine vision alignment.  (value not drawn)
GateName_1: G$1; DeviceName: 1.5X3; SymbolName_1: FIDUCIAL; LibraryName: SparkFun-Retired; DeviceSetName: FIDUCIAL; Package: FIDUCIAL-1.5X3
footprint FIDUCIAL-1.5X3

## FIDUCIAL1X2.5
designator FID?, comment Fiducial Alignment PointsVarious fiducial points for machine vision alignment.  (value not drawn)
GateName_1: G$1; DeviceName: 1X2.5; SymbolName_1: FIDUCIAL; LibraryName: SparkFun-Retired; DeviceSetName: FIDUCIAL; Package: FIDUCIAL-1X2.5
footprint FIDUCIAL-1X2.5